# Altium integrated library Xilinx Aerospace and Defense.IntLib: 197 symbols (part 28 of 56)
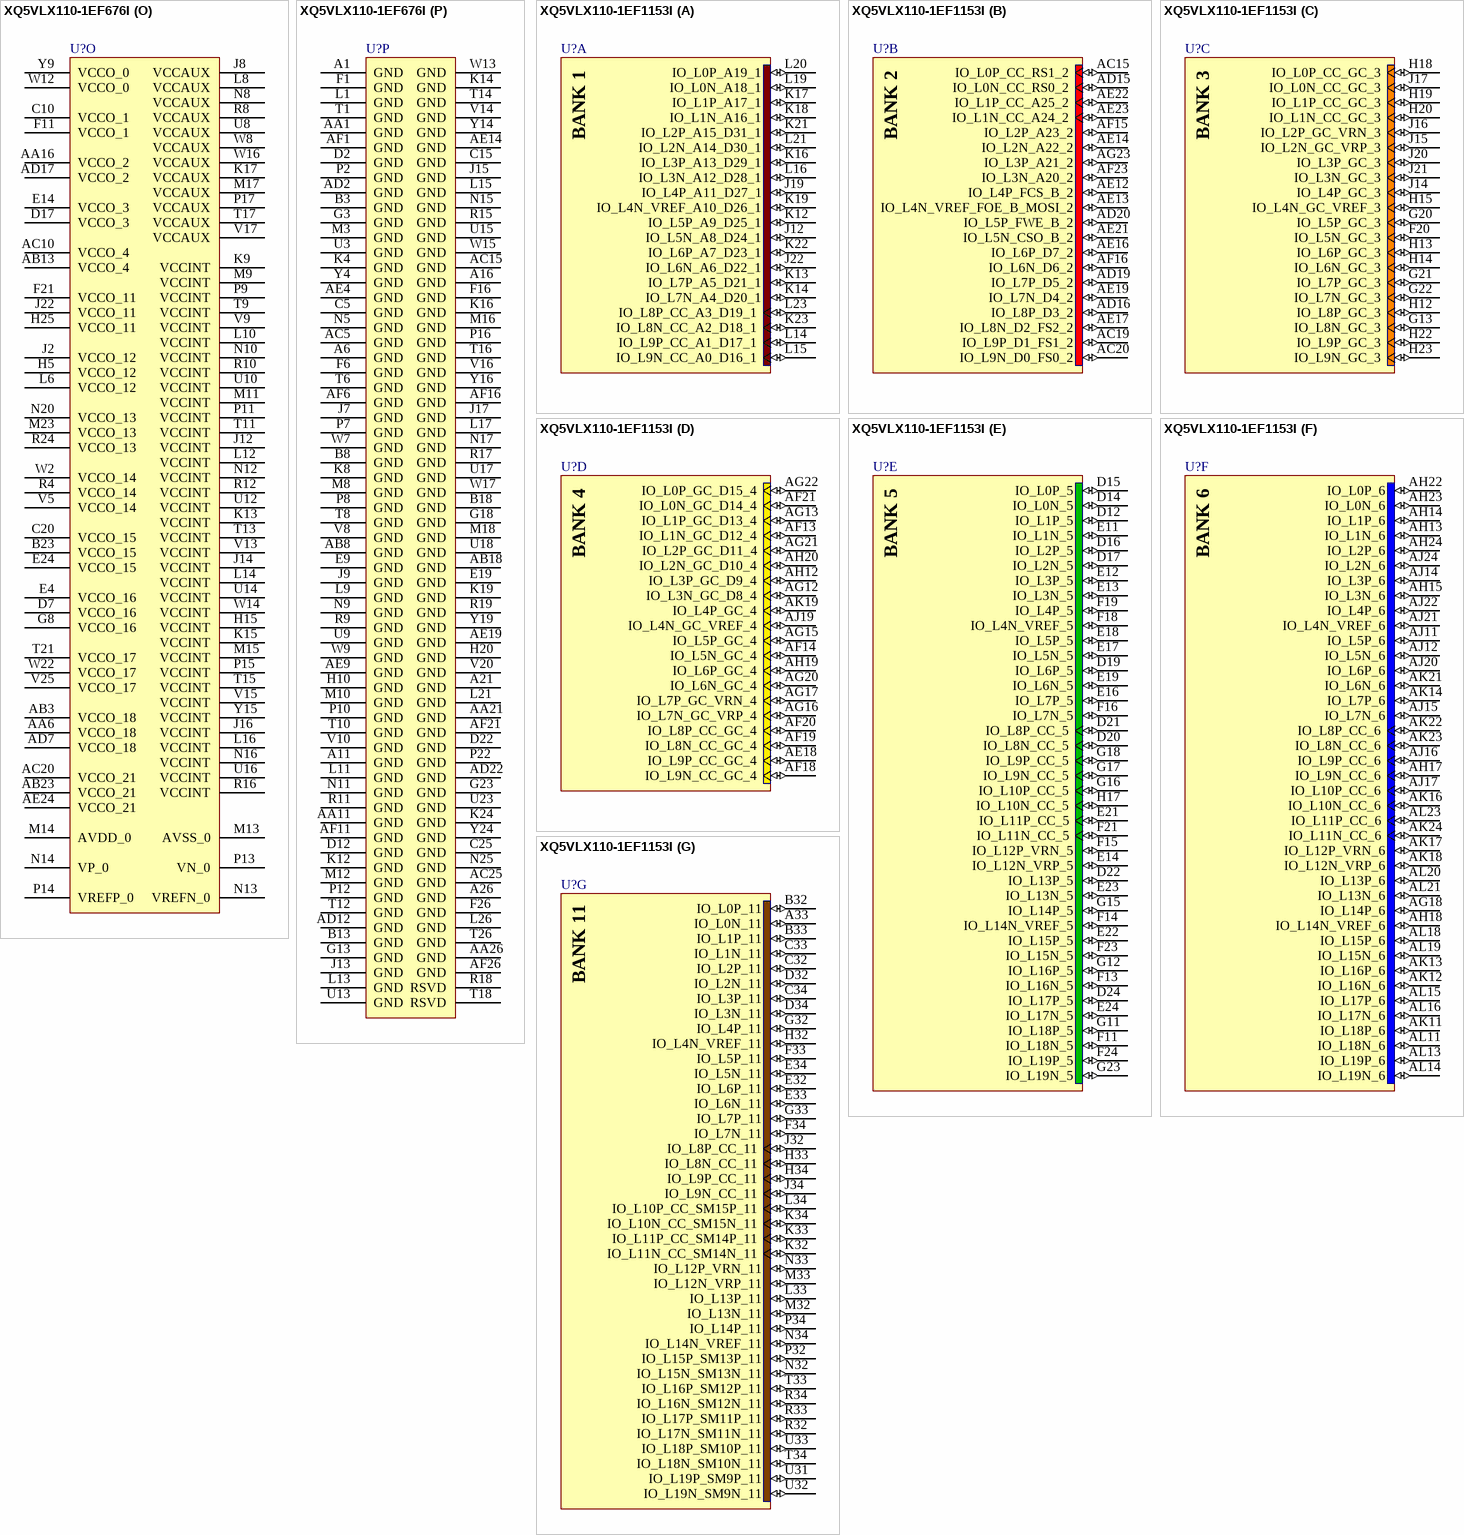
[diagram p339: symbols XQ5VLX110-1EF676I to XQ5VLX110-1EF1153I]

## XQ5VLX110-1EF676I
designator U?
Virtex-5Q LX Platform FPGA, 440 User I/Os, 676-Ball EFBGA, Speed Grade 1, Industrial Grade; Note: Do not connect a single-ended clock to the N-side of clock capable pins (CC & GC pins).; Published: 17-Nov-2009; LatestRevisionDate: 01-Mar-2010; LatestRevisionNote: Updated to datasheet version 1.1 Dec-2009.; DatasheetVersion: ver1.1, Dec-2009; PackageVersion: ver1.0, May-2009; PackageReference: EF676; Publisher: Altium Limited; PackageDescription: 676-Ball Flip Chip Ball Grid Array (EF676); Code_JEDEC: MS-034-AAL-1; Code_IPC: BGA100P26X26-676; ComponentLink1Description: Virtex-5Q Datasheet; ComponentLink1URL: http://www.xilinx.com/support/documentation/data_sheets/ds174.pdf; ComponentLink2Description: Pinout Specification; ComponentLink2URL: http://direct.xilinx.com/bvdocs/userguides/ug195.pdf; ComponentLink3Description: EF676 Package Drawing; ComponentLink3URL: http://www.xilinx.com/support/documentation/package_specs/ef676.pdf; ComponentLink4Description: Virtex-5Q Documents; ComponentLink4URL: http://www.xilinx.com/support/documentation/virtex-5q.htm; ComponentLink5Description: Xilinx.com Home; ComponentLink5URL: http://www.xilinx.com
footprint EF676 (BGA, 676-Leads, Body 27x27mm, Pitch 1mm)
signal-integrity model XQ5VLX110_EF676 (Virtex-5Q)
part A pins: F13 IO_L0N_A18_1 (io), F15 IO_L2P_A15_D31_1 (io), G9 IO_L7N_A4_D20_1 (io), G10 IO_L7P_A5_D21_1 (io), G11 IO_L5N_A8_D24_1 (io), G12 IO_L3P_A13_D29_1 (io), G14 IO_L0P_A19_1 (io), G15 IO_L2N_A14_D30_1 (io), G16 IO_L4P_A11_D27_1 (io), G17 IO_L6N_A6_D22_1 (io), G19 IO_L8P_CC_A3_D19_1 (io), H8 IO_L9N_CC_A0_D16_1 (io), H9 IO_L9P_CC_A1_D17_1 (io), H11 IO_L5P_A9_D25_1 (io), H12 IO_L3N_A12_D28_1 (io), H13 IO_L1N_A16_1 (io), H14 IO_L1P_A17_1 (io), H16 IO_L4N_VREF_A10_D26_1 (io), H17 IO_L6P_A7_D23_1 (io), H18 IO_L8N_CC_A2_D18_1 (io)
part B pins: AA8 IO_L2N_A22_2 (io), AA9 IO_L4N_VREF_FOE_B_MOSI_2 (io), AA10 IO_L4P_FCS_B_2 (io), AA12 IO_L8P_D3_2 (io), AA13 IO_L9P_D1_FS1_2 (io), AA14 IO_L9N_D0_FS0_2 (io), AA15 IO_L7P_D5_2 (io), AA17 IO_L3P_A21_2 (io), AA18 IO_L1P_CC_A25_2 (io), AB11 IO_L8N_D2_FS2_2 (io), AB14 IO_L7N_D4_2 (io), AB15 IO_L5P_FWE_B_2 (io), AB16 IO_L5N_CSO_B_2 (io), AB17 IO_L3N_A20_2 (io), Y8 IO_L2P_A23_2 (io), Y10 IO_L0P_CC_RS1_2 (io), Y11 IO_L0N_CC_RS0_2 (io), Y12 IO_L6P_D7_2 (io), Y13 IO_L6N_D6_2 (io), Y18 IO_L1N_CC_A24_2 (io)
part C pins: D13 IO_L1P_CC_GC_3 (io), D14 IO_L1N_CC_GC_3 (io), D15 IO_L3P_GC_3 (io), E8 IO_L8N_GC_3 (io), E10 IO_L4P_GC_3 (io), E11 IO_L4N_GC_VREF_3 (io), E12 IO_L2P_GC_VRN_3 (io), E13 IO_L0N_CC_GC_3 (io), E15 IO_L3N_GC_3 (io), E16 IO_L5P_GC_3 (io), E17 IO_L5N_GC_3 (io), E18 IO_L7P_GC_3 (io), F8 IO_L8P_GC_3 (io), F9 IO_L6P_GC_3 (io), F10 IO_L6N_GC_3 (io), F12 IO_L2N_GC_VRP_3 (io), F14 IO_L0P_CC_GC_3 (io), F17 IO_L9N_GC_3 (io), F18 IO_L9P_GC_3 (io), F19 IO_L7N_GC_3 (io)
part D pins: AB9 IO_L1N_GC_D12_4 (io), AB10 IO_L1P_GC_D13_4 (io), AB12 IO_L7P_GC_VRN_4 (io), AC7 IO_L5N_GC_4 (io), AC8 IO_L3P_GC_D9_4 (io), AC9 IO_L3N_GC_D8_4 (io), AC11 IO_L7N_GC_VRP_4 (io), AC12 IO_L8N_CC_GC_4 (io), AC13 IO_L8P_CC_GC_4 (io), AC14 IO_L6N_GC_4 (io), AC16 IO_L2N_GC_D10_4 (io), AC17 IO_L2P_GC_D11_4 (io), AC18 IO_L0N_GC_D14_4 (io), AD8 IO_L5P_GC_4 (io), AD10 IO_L9N_CC_GC_4 (io), AD11 IO_L9P_CC_GC_4 (io), AD13 IO_L6P_GC_4 (io), AD14 IO_L4N_GC_VREF_4 (io), AD15 IO_L4P_GC_4 (io), AD18 IO_L0P_GC_D15_4 (io)
part E pins: E20 IO_L1N_11 (io), E21 IO_L1P_11 (io), E22 IO_L2P_11 (io), E23 IO_L2N_11 (io), F20 IO_L0N_11 (io), F22 IO_L3P_11 (io), F23 IO_L3N_11 (io), G20 IO_L0P_11 (io), G21 IO_L4P_11 (io), G22 IO_L4N_VREF_11 (io), H19 IO_L6N_11 (io), H21 IO_L5P_11 (io), H22 IO_L5N_11 (io), H23 IO_L7P_11 (io), J19 IO_L6P_11 (io), J20 IO_L8N_CC_11 (io), J21 IO_L8P_CC_11 (io), J23 IO_L7N_11 (io), K20 IO_L9N_CC_11 (io), K21 IO_L9P_CC_11 (io), K22 IO_L10N_CC_SM15N_11 (io), K23 IO_L10P_CC_SM15P_11 (io), L19 IO_L11N_CC_SM14N_11 (io), L20 IO_L11P_CC_SM14P_11 (io), L22 IO_L12N_VRP_11 (io), L23 IO_L12P_VRN_11 (io), M19 IO_L15N_SM13N_11 (io), M20 IO_L15P_SM13P_11 (io), M21 IO_L13N_11 (io), M22 IO_L13P_11 (io), N19 IO_L14N_VREF_11 (io), N21 IO_L17N_SM11N_11 (io), N22 IO_L17P_SM11P_11 (io), N23 IO_L16N_SM12N_11 (io), P19 IO_L14P_11 (io), P20 IO_L19N_SM9N_11 (io), P21 IO_L19P_SM9P_11 (io), P23 IO_L16P_SM12P_11 (io), R22 IO_L18P_SM10P_11 (io), R23 IO_L18N_SM10N_11 (io)
part F pins: E5 IO_L1N_12 (io), E6 IO_L1P_12 (io), E7 IO_L0P_12 (io), F4 IO_L3N_12 (io), F5 IO_L3P_12 (io), F7 IO_L0N_12 (io), G4 IO_L6N_12 (io), G5 IO_L5N_12 (io), G6 IO_L2P_12 (io), G7 IO_L2N_12 (io), H4 IO_L6P_12 (io), H6 IO_L5P_12 (io), H7 IO_L4N_VREF_12 (io), J4 IO_L7N_12 (io), J5 IO_L7P_12 (io), J6 IO_L4P_12 (io), K5 IO_L10P_CC_12 (io), K6 IO_L8P_CC_12 (io), K7 IO_L8N_CC_12 (io), L3 IO_L11N_CC_12 (io), L4 IO_L11P_CC_12 (io), L5 IO_L10N_CC_12 (io), L7 IO_L9P_CC_12 (io), M4 IO_L15P_12 (io), M5 IO_L12P_VRN_12 (io), M6 IO_L12N_VRP_12 (io), M7 IO_L9N_CC_12 (io), N3 IO_L14N_VREF_12 (io), N4 IO_L15N_12 (io), N6 IO_L13N_12 (io), N7 IO_L13P_12 (io), P3 IO_L14P_12 (io), P4 IO_L16N_12 (io), P5 IO_L16P_12 (io), P6 IO_L19P_12 (io), R3 IO_L17P_12 (io), R5 IO_L18N_12 (io), R6 IO_L18P_12 (io), R7 IO_L19N_12 (io), T3 IO_L17N_12 (io)
part G pins: AA25 IO_L18N_13 (io), AB25 IO_L18P_13 (io), AB26 IO_L19N_13 (io), AC26 IO_L19P_13 (io), E25 IO_L1P_SM7P_13 (io), E26 IO_L1N_SM7N_13 (io), F24 IO_L0P_SM8P_13 (io), F25 IO_L0N_SM8N_13 (io), G24 IO_L3P_SM5P_13 (io), G25 IO_L3N_SM5N_13 (io), G26 IO_L2P_SM6P_13 (io), H24 IO_L5P_SM4P_13 (io), H26 IO_L2N_SM6N_13 (io), J24 IO_L5N_SM4N_13 (io), J25 IO_L4P_13 (io), J26 IO_L4N_VREF_13 (io), K25 IO_L7P_SM2P_13 (io), K26 IO_L7N_SM2N_13 (io), L24 IO_L6P_SM3P_13 (io), L25 IO_L6N_SM3N_13 (io), M24 IO_L9P_CC_SM0P_13 (io), M25 IO_L8P_CC_SM1P_13 (io), M26 IO_L8N_CC_SM1N_13 (io), N24 IO_L9N_CC_SM0N_13 (io), N26 IO_L10N_CC_13 (io), P24 IO_L11N_CC_13 (io), P25 IO_L11P_CC_13 (io), P26 IO_L10P_CC_13 (io), R25 IO_L12P_VRN_13 (io), R26 IO_L12N_VRP_13 (io), T24 IO_L13P_13 (io), T25 IO_L13N_13 (io), U24 IO_L15P_13 (io), U25 IO_L15N_13 (io), U26 IO_L14N_VREF_13 (io), V26 IO_L14P_13 (io), W25 IO_L16P_13 (io), W26 IO_L16N_13 (io), Y25 IO_L17P_13 (io), Y26 IO_L17N_13 (io)
part H pins: AA2 IO_L15P_14 (io), AB1 IO_L16N_14 (io), AB2 IO_L16P_14 (io), AC1 IO_L17N_14 (io), AC2 IO_L17P_14 (io), AD1 IO_L18N_14 (io), AE1 IO_L18P_14 (io), AE2 IO_L19N_14 (io), AF2 IO_L19P_14 (io), E1 IO_L0N_14 (io), E2 IO_L0P_14 (io), E3 IO_L1N_14 (io), F2 IO_L3P_14 (io), F3 IO_L1P_14 (io), G1 IO_L2P_14 (io), G2 IO_L3N_14 (io), H1 IO_L2N_14 (io), H2 IO_L7N_14 (io), H3 IO_L5P_14 (io), J1 IO_L7P_14 (io), J3 IO_L5N_14 (io), K1 IO_L6N_14 (io), K2 IO_L4N_VREF_14 (io), K3 IO_L4P_14 (io), L2 IO_L6P_14 (io), M1 IO_L8P_CC_14 (io), M2 IO_L9P_CC_14 (io), N1 IO_L8N_CC_14 (io), N2 IO_L9N_CC_14 (io), P1 IO_L10P_CC_14 (io), R1 IO_L10N_CC_14 (io), R2 IO_L11N_CC_14 (io), T2 IO_L11P_CC_14 (io), U1 IO_L12N_VRP_14 (io), U2 IO_L12P_VRN_14 (io), V1 IO_L13N_14 (io), V2 IO_L13P_14 (io), W1 IO_L14N_VREF_14 (io), Y1 IO_L14P_14 (io), Y2 IO_L15N_14 (io)
part I pins: A14 IO_L1P_15 (io), A15 IO_L1N_15 (io), A17 IO_L5N_15 (io), A18 IO_L6P_15 (io), A19 IO_L6N_15 (io), A20 IO_L8P_CC_15 (io), A22 IO_L13N_15 (io), A23 IO_L14P_15 (io), A24 IO_L14N_VREF_15 (io), A25 IO_L17N_15 (io), B14 IO_L0N_15 (io), B15 IO_L2P_15 (io), B16 IO_L2N_15 (io), B17 IO_L5P_15 (io), B19 IO_L7P_15 (io), B20 IO_L8N_CC_15 (io), B21 IO_L11N_CC_15 (io), B22 IO_L13P_15 (io), B24 IO_L15P_15 (io), B25 IO_L17P_15 (io), B26 IO_L18P_15 (io), C14 IO_L0P_15 (io), C16 IO_L3N_15 (io), C17 IO_L4N_VREF_15 (io), C18 IO_L7N_15 (io), C19 IO_L9P_CC_15 (io), C21 IO_L11P_CC_15 (io), C22 IO_L12N_VRP_15 (io), C23 IO_L15N_15 (io), C24 IO_L16N_15 (io), C26 IO_L18N_15 (io), D16 IO_L3P_15 (io), D18 IO_L4P_15 (io), D19 IO_L9N_CC_15 (io), D20 IO_L10N_CC_15 (io), D21 IO_L10P_CC_15 (io), D23 IO_L12P_VRN_15 (io), D24 IO_L16P_15 (io), D25 IO_L19N_15 (io), D26 IO_L19P_15 (io)
part J pins: A2 IO_L17P_16 (io), A3 IO_L17N_16 (io), A4 IO_L12P_VRN_16 (io), A5 IO_L12N_VRP_16 (io), A7 IO_L9N_CC_16 (io), A8 IO_L7N_16 (io), A9 IO_L7P_16 (io), A10 IO_L6N_16 (io), A12 IO_L3N_16 (io), A13 IO_L3P_16 (io), B1 IO_L19P_16 (io), B2 IO_L19N_16 (io), B4 IO_L15N_16 (io), B5 IO_L13P_16 (io), B6 IO_L13N_16 (io), B7 IO_L9P_CC_16 (io), B9 IO_L5P_16 (io), B10 IO_L5N_16 (io), B11 IO_L6P_16 (io), B12 IO_L2N_16 (io), C1 IO_L18N_16 (io), C2 IO_L16P_16 (io), C3 IO_L16N_16 (io), C4 IO_L15P_16 (io), C6 IO_L11P_CC_16 (io), C7 IO_L11N_CC_16 (io), C8 IO_L8N_CC_16 (io), C9 IO_L4P_16 (io), C11 IO_L1P_16 (io), C12 IO_L1N_16 (io), C13 IO_L2P_16 (io), D1 IO_L18P_16 (io), D3 IO_L14P_16 (io), D4 IO_L14N_VREF_16 (io), D5 IO_L10P_CC_16 (io), D6 IO_L10N_CC_16 (io), D8 IO_L8P_CC_16 (io), D9 IO_L4N_VREF_16 (io), D10 IO_L0N_16 (io), D11 IO_L0P_16 (io)
part K pins: AA19 IO_L19N_17 (io), AA20 IO_L19P_17 (io), AA22 IO_L10N_CC_17 (io), AA23 IO_L6P_17 (io), AA24 IO_L6N_17 (io), AB19 IO_L18N_17 (io), AB20 IO_L18P_17 (io), AB21 IO_L11N_CC_17 (io), AB22 IO_L10P_CC_17 (io), AB24 IO_L9P_CC_17 (io), AC19 IO_L17N_17 (io), AC21 IO_L11P_CC_17 (io), AC22 IO_L8N_CC_17 (io), AC23 IO_L8P_CC_17 (io), AC24 IO_L9N_CC_17 (io), AD19 IO_L17P_17 (io), R20 IO_L1N_17 (io), R21 IO_L1P_17 (io), T19 IO_L2N_17 (io), T20 IO_L2P_17 (io), T22 IO_L0N_17 (io), T23 IO_L0P_17 (io), U19 IO_L14P_17 (io), U20 IO_L14N_VREF_17 (io), U21 IO_L3N_17 (io), U22 IO_L3P_17 (io), V19 IO_L15P_17 (io), V21 IO_L12P_VRN_17 (io), V22 IO_L12N_VRP_17 (io), V23 IO_L5N_17 (io), V24 IO_L5P_17 (io), W19 IO_L15N_17 (io), W20 IO_L13N_17 (io), W21 IO_L13P_17 (io), W23 IO_L4N_VREF_17 (io), W24 IO_L4P_17 (io), Y20 IO_L16N_17 (io), Y21 IO_L16P_17 (io), Y22 IO_L7N_17 (io), Y23 IO_L7P_17 (io)
part L pins: AA3 IO_L11N_CC_18 (io), AA4 IO_L9P_CC_18 (io), AA5 IO_L9N_CC_18 (io), AA7 IO_L10N_CC_18 (io), AB4 IO_L11P_CC_18 (io), AB5 IO_L14N_VREF_18 (io), AB6 IO_L14P_18 (io), AB7 IO_L15N_18 (io), AC3 IO_L12N_VRP_18 (io), AC4 IO_L12P_VRN_18 (io), AC6 IO_L15P_18 (io), AD3 IO_L13N_18 (io), AD4 IO_L13P_18 (io), AD5 IO_L17N_18 (io), AD6 IO_L17P_18 (io), AE3 IO_L16N_18 (io), AE5 IO_L19N_18 (io), AE6 IO_L19P_18 (io), AF3 IO_L16P_18 (io), AF4 IO_L18N_18 (io), AF5 IO_L18P_18 (io), T4 IO_L1N_18 (io), T5 IO_L1P_18 (io), T7 IO_L2P_18 (io), U4 IO_L0N_18 (io), U5 IO_L3P_18 (io), U6 IO_L3N_18 (io), U7 IO_L2N_18 (io), V3 IO_L0P_18 (io), V4 IO_L4P_18 (io), V6 IO_L6P_18 (io), V7 IO_L6N_18 (io), W3 IO_L5P_18 (io), W4 IO_L4N_VREF_18 (io), W5 IO_L7P_18 (io), W6 IO_L7N_18 (io), Y3 IO_L5N_18 (io), Y5 IO_L8N_CC_18 (io), Y6 IO_L8P_CC_18 (io), Y7 IO_L10P_CC_18 (io)
part M pins: AD9 IO_L19N_21 (io), AD16 IO_L11N_CC_21 (io), AD20 IO_L5P_21 (io), AD21 IO_L5N_21 (io), AD23 IO_L0N_21 (io), AD24 IO_L0P_21 (io), AD25 IO_L3N_21 (io), AD26 IO_L1N_21 (io), AE7 IO_L18N_21 (io), AE8 IO_L19P_21 (io), AE10 IO_L16N_21 (io), AE11 IO_L15N_21 (io), AE12 IO_L15P_21 (io), AE13 IO_L14N_VREF_21 (io), AE15 IO_L12N_VRP_21 (io), AE16 IO_L11P_CC_21 (io), AE17 IO_L10N_CC_21 (io), AE18 IO_L8N_CC_21 (io), AE20 IO_L6P_21 (io), AE21 IO_L6N_21 (io), AE22 IO_L7N_21 (io), AE23 IO_L4N_VREF_21 (io), AE25 IO_L3P_21 (io), AE26 IO_L1P_21 (io), AF7 IO_L18P_21 (io), AF8 IO_L17N_21 (io), AF9 IO_L17P_21 (io), AF10 IO_L16P_21 (io), AF12 IO_L14P_21 (io), AF13 IO_L13N_21 (io), AF14 IO_L13P_21 (io), AF15 IO_L12P_VRN_21 (io), AF17 IO_L10P_CC_21 (io), AF18 IO_L8P_CC_21 (io), AF19 IO_L9P_CC_21 (io), AF20 IO_L9N_CC_21 (io), AF22 IO_L7P_21 (io), AF23 IO_L4P_21 (io), AF24 IO_L2P_21 (io), AF25 IO_L2N_21 (io)
part N pins: J10 CCLK_0 (io), J11 INIT_B_0 (io), J18 PROGRAM_B_0 (in), K10 DONE_0 (io), K11 D_IN_0 (in), K18 VBATT_0 (power), L18 HSWAPEN_0 (in), N18 CS_B_0 (in), P18 RDWR_B_0 (in), R13 DXN_0, R14 DXP_0, U11 TCK_0 (in), V11 TDI_0 (in), V12 TMS_0 (in), V18 M2_0 (in), W10 TDO_0 (out), W11 D_OUT_BUSY_0 (out), W18 M0_0 (in), Y17 M1_0 (in)
part O pins: AA6 VCCO_18 (power), AA16 VCCO_2 (power), AB3 VCCO_18 (power), AB13 VCCO_4 (power), AB23 VCCO_21 (power), AC10 VCCO_4 (power), AC20 VCCO_21 (power), AD7 VCCO_18 (power), AD17 VCCO_2 (power), AE24 VCCO_21 (power), B23 VCCO_15 (power), C10 VCCO_1 (power), C20 VCCO_15 (power), D7 VCCO_16 (power), D17 VCCO_3 (power), E4 VCCO_16 (power), E14 VCCO_3 (power), E24 VCCO_15 (power), F11 VCCO_1 (power), F21 VCCO_11 (power), G8 VCCO_16 (power), H5 VCCO_12 (power), H15 VCCINT (power), H25 VCCO_11 (power), J2 VCCO_12 (power), J8 VCCAUX (power), J12 VCCINT (power), J14 VCCINT (power), J16 VCCINT (power), J22 VCCO_11 (power), K9 VCCINT (power), K13 VCCINT (power), K15 VCCINT (power), K17 VCCAUX (power), L6 VCCO_12 (power), L8 VCCAUX (power), L10 VCCINT (power), L12 VCCINT (power), L14 VCCINT (power), L16 VCCINT (power), M9 VCCINT (power), M11 VCCINT (power), M13 AVSS_0 (power), M14 AVDD_0 (power), M15 VCCINT (power), M17 VCCAUX (power), M23 VCCO_13 (power), N8 VCCAUX (power), N10 VCCINT (power), N12 VCCINT (power), N13 VREFN_0 (power), N14 VP_0 (power), N16 VCCINT (power), N20 VCCO_13 (power), P9 VCCINT (power), P11 VCCINT (power), P13 VN_0 (power), P14 VREFP_0 (power), P15 VCCINT (power), P17 VCCAUX (power), R4 VCCO_14 (power), R8 VCCAUX (power), R10 VCCINT (power), R12 VCCINT (power), R16 VCCINT (power), R24 VCCO_13 (power), T9 VCCINT (power), T11 VCCINT (power), T13 VCCINT (power), T15 VCCINT (power), T17 VCCAUX (power), T21 VCCO_17 (power), U8 VCCAUX (power), U10 VCCINT (power), U12 VCCINT (power), U14 VCCINT (power), U16 VCCINT (power), V5 VCCO_14 (power), V9 VCCINT (power), V13 VCCINT (power), V15 VCCINT (power), V17 VCCAUX (power), V25 VCCO_17 (power), W2 VCCO_14 (power), W8 VCCAUX (power), W12 VCCO_0 (power), W14 VCCINT (power), W16 VCCAUX (power), W22 VCCO_17 (power), Y9 VCCO_0 (power), Y15 VCCINT (power)
part P pins: A1 GND (power), A6 GND (power), A11 GND (power), A16 GND (power), A21 GND (power), A26 GND (power), AA1 GND (power), AA11 GND (power), AA21 GND (power), AA26 GND (power), AB8 GND (power), AB18 GND (power), AC5 GND (power), AC15 GND (power), AC25 GND (power), AD2 GND (power), AD12 GND (power), AD22 GND (power), AE4 GND (power), AE9 GND (power), AE14 GND (power), AE19 GND (power), AF1 GND (power), AF6 GND (power), AF11 GND (power), AF16 GND (power), AF21 GND (power), AF26 GND (power), B3 GND (power), B8 GND (power), B13 GND (power), B18 GND (power), C5 GND (power), C15 GND (power), C25 GND (power), D2 GND (power), D12 GND (power), D22 GND (power), E9 GND (power), E19 GND (power), F1 GND (power), F6 GND (power), F16 GND (power), F26 GND (power), G3 GND (power), G13 GND (power), G18 GND (power), G23 GND (power), H10 GND (power), H20 GND (power), J7 GND (power), J9 GND (power), J13 GND (power), J15 GND (power), J17 GND (power), K4 GND (power), K8 GND (power), K12 GND (power), K14 GND (power), K16 GND (power), K19 GND (power), K24 GND (power), L1 GND (power), L9 GND (power), L11 GND (power), L13 GND (power), L15 GND (power), L17 GND (power), L21 GND (power), L26 GND (power), M3 GND (power), M8 GND (power), M10 GND (power), M12 GND (power), M16 GND (power), M18 GND (power), N5 GND (power), N9 GND (power), N11 GND (power), N15 GND (power), N17 GND (power), N25 GND (power), P2 GND (power), P7 GND (power), P8 GND (power), P10 GND (power), P12 GND (power), P16 GND (power), P22 GND (power), R9 GND (power), R11 GND (power), R15 GND (power), R17 GND (power), R18 RSVD, R19 GND (power), T1 GND (power), T6 GND (power), T8 GND (power), T10 GND (power), T12 GND (power), T14 GND (power), T16 GND (power), T18 RSVD, T26 GND (power), U3 GND (power), U9 GND (power), U13 GND (power), U15 GND (power), U17 GND (power), U18 GND (power), U23 GND (power), V8 GND (power), V10 GND (power), V14 GND (power), V16 GND (power), V20 GND (power), W7 GND (power), W9 GND (power), W13 GND (power), W15 GND (power), W17 GND (power), Y4 GND (power), Y14 GND (power), Y16 GND (power), Y19 GND (power), Y24 GND (power)
part A text: BANK 1
part B text: BANK 2
part C text: BANK 3
part D text: BANK 4
part E text: BANK 11
part F text: BANK 12
part G text: BANK 13
part H text: BANK 14
part I text: BANK 15
part J text: BANK 16
part K text: BANK 17
part L text: BANK 18
part M text: BANK 21

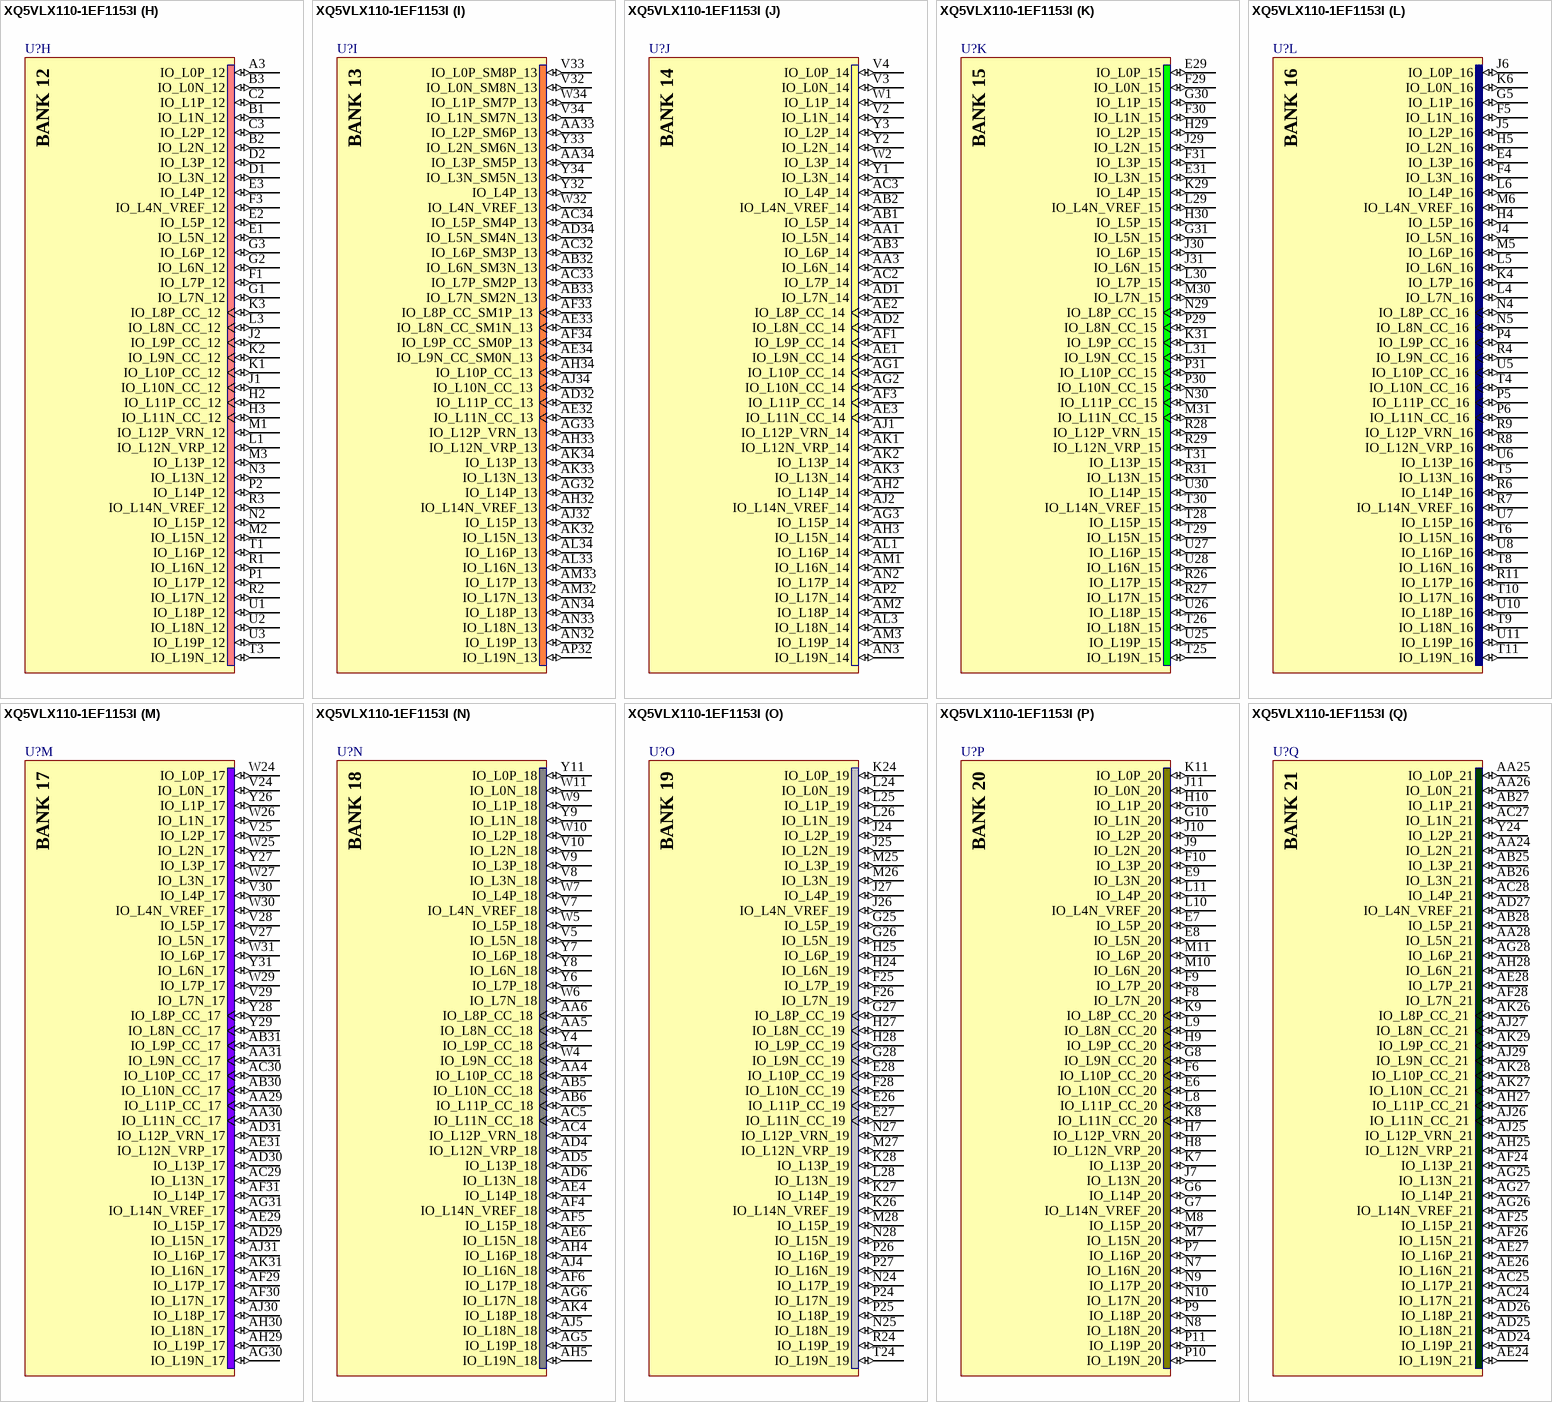
[diagram p106: symbol XQ5VLX110-1EF1153I]

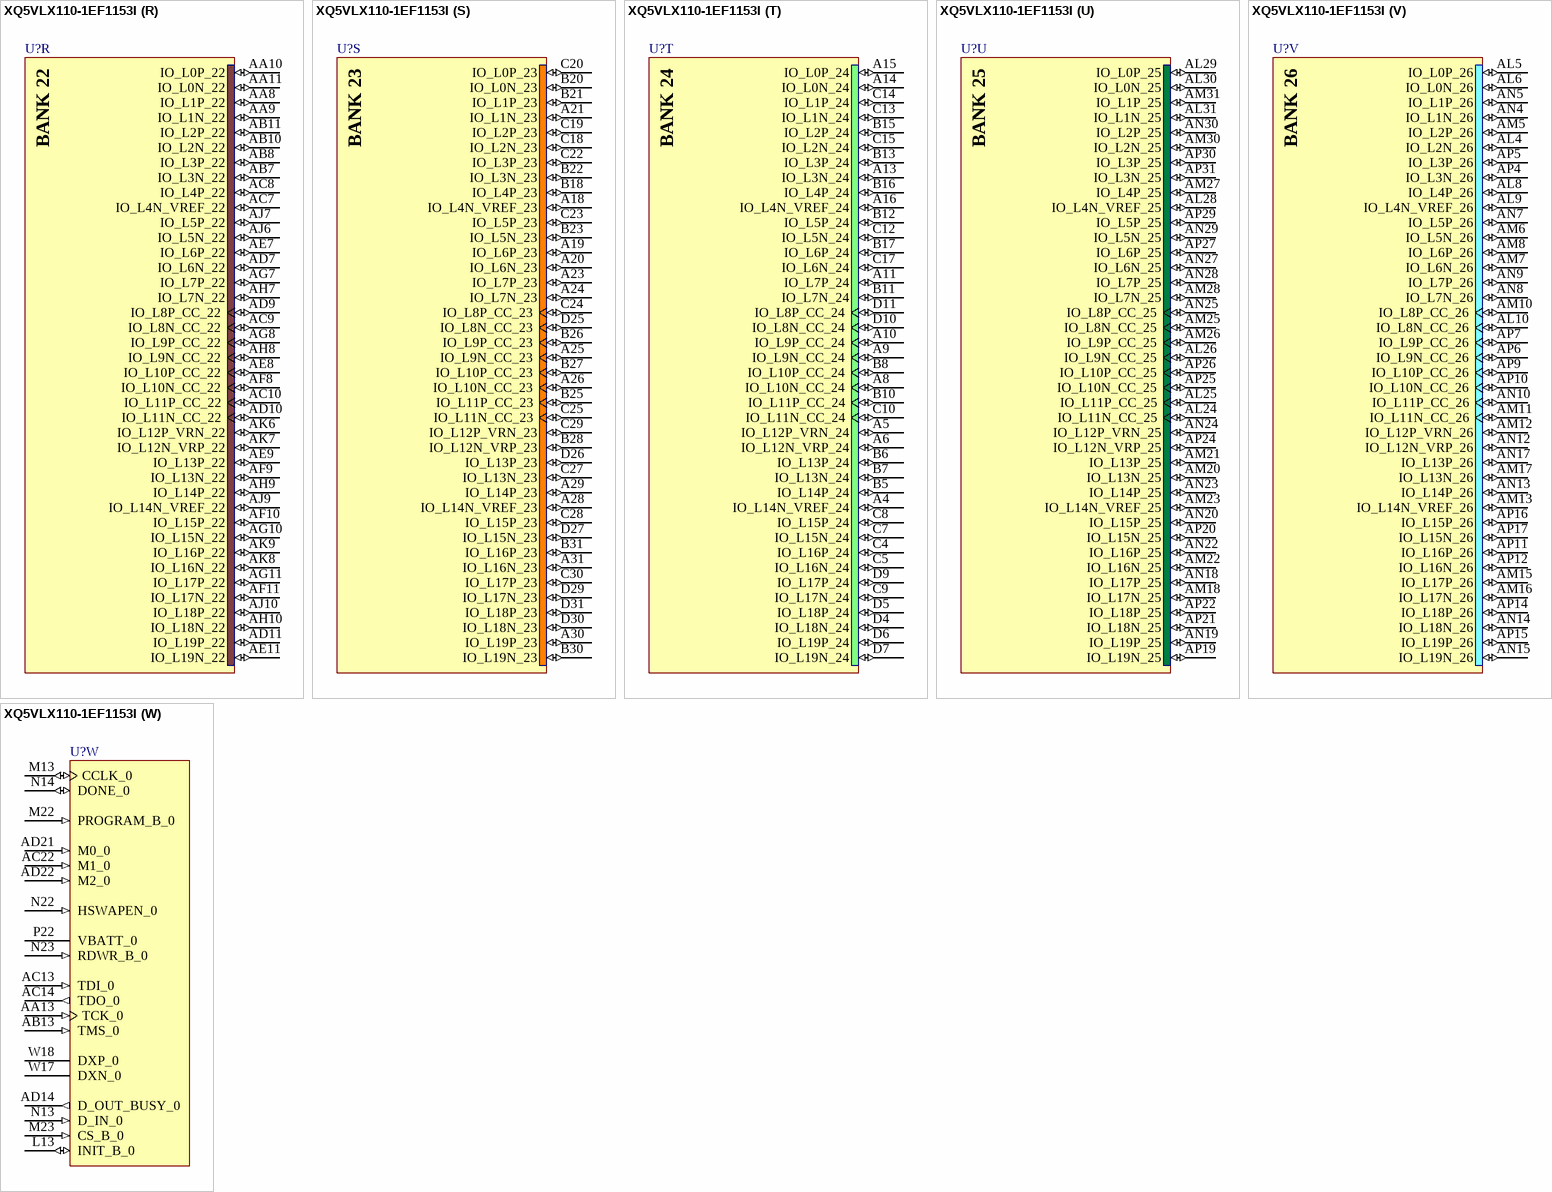
[diagram p107: symbol XQ5VLX110-1EF1153I]

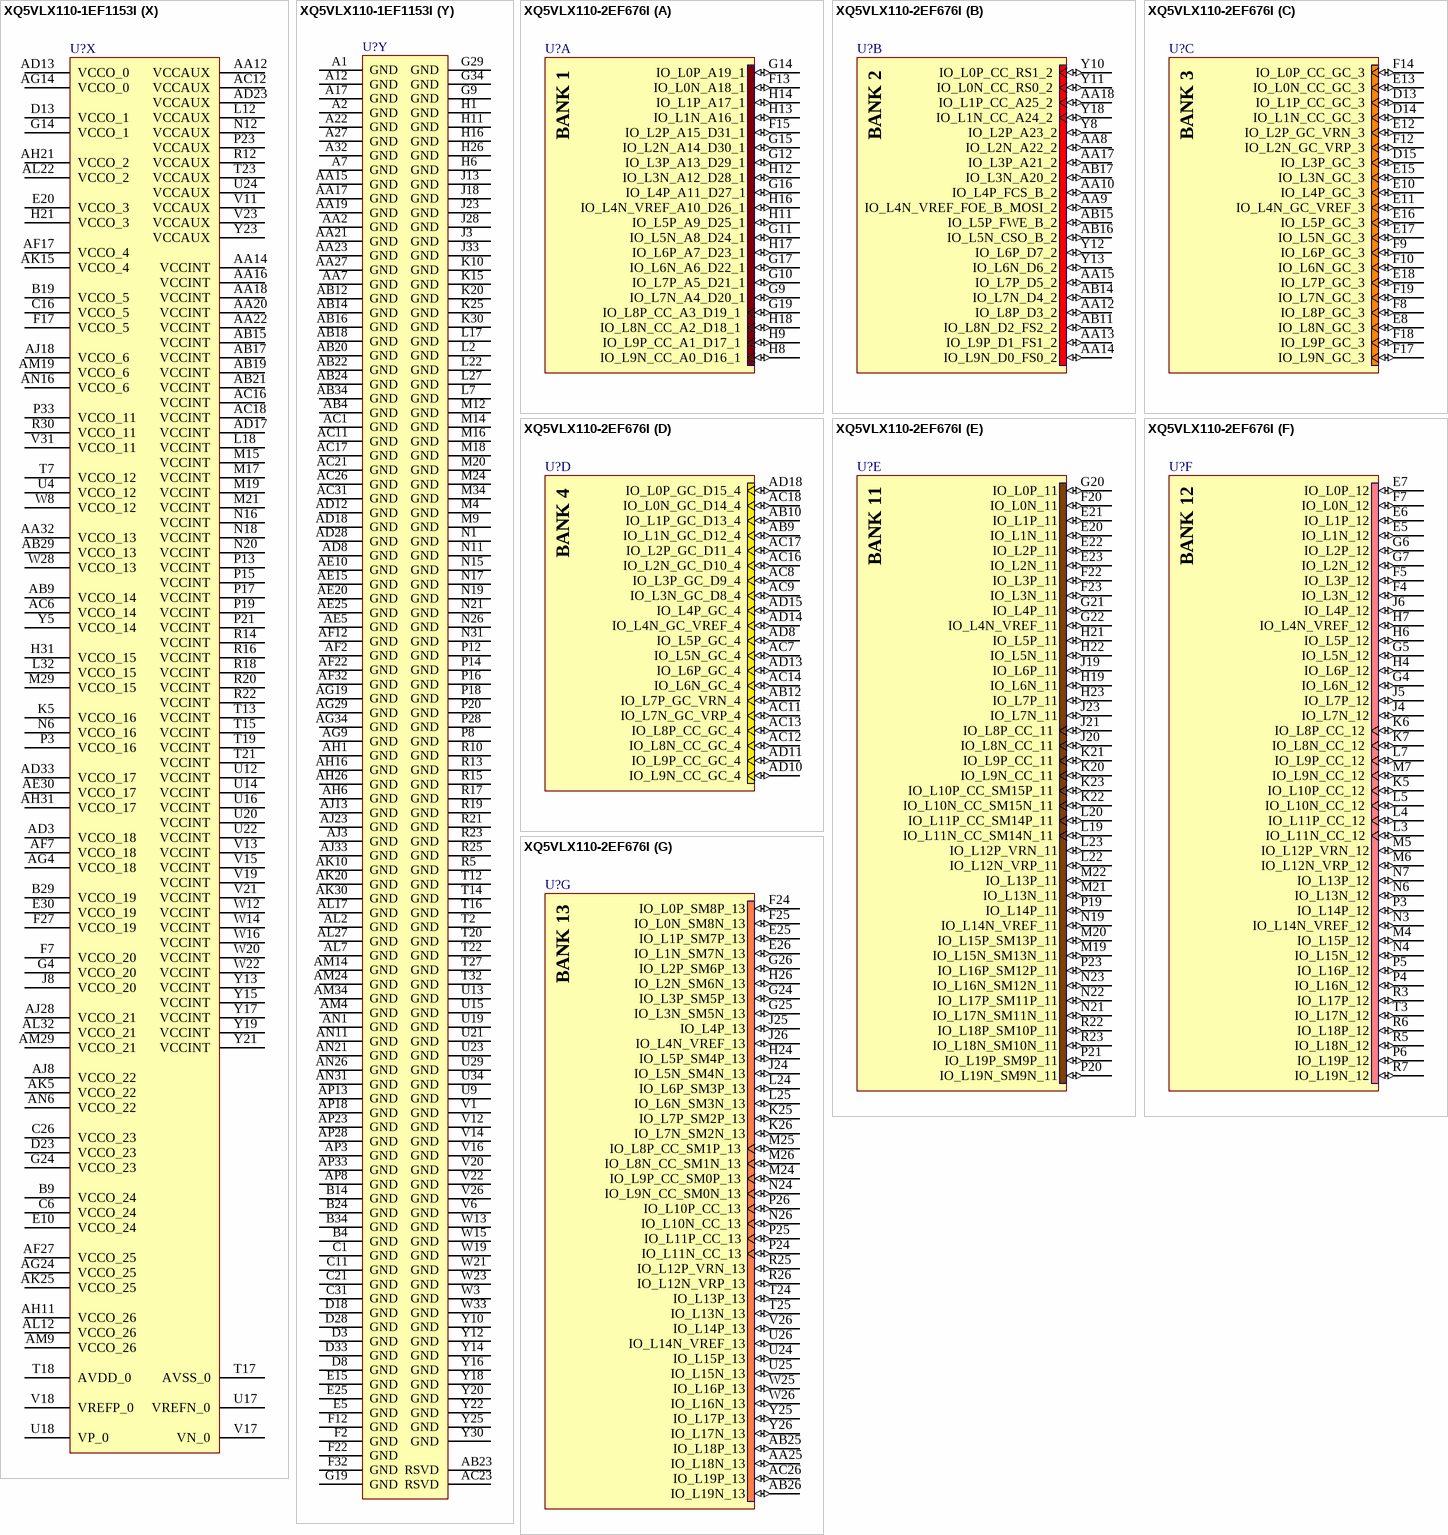
[diagram p108: symbols XQ5VLX110-1EF1153I to XQ5VLX110-2EF676I]

## XQ5VLX110-1EF1153I
designator U?
Virtex-5Q LX Platform FPGA, 800 User I/Os, 1153-Ball EFBGA, Speed Grade 1, Industrial Grade; Note: Do not connect a single-ended clock to the N-side of clock capable pins (CC & GC pins).; Published: 17-Nov-2009; LatestRevisionDate: 01-Mar-2010; LatestRevisionNote: Updated to datasheet version 1.1 Dec-2009.; DatasheetVersion: ver1.1, Dec-2009; PackageVersion: ver1.0, May-2009; PackageReference: EF1153; Publisher: Altium Limited; PackageDescription: 1153-Ball Flip Chip Ball Grid Array (EF1153); Code_JEDEC: MS-034-AAR-1 (Depopulated); ComponentLink1Description: Virtex-5Q Datasheet; ComponentLink1URL: http://www.xilinx.com/support/documentation/data_sheets/ds174.pdf; ComponentLink2Description: Pinout Specification; ComponentLink2URL: http://direct.xilinx.com/bvdocs/userguides/ug195.pdf; ComponentLink3Description: EF1153 Package Drawing; ComponentLink3URL: http://www.xilinx.com/support/documentation/package_specs/ef1153.pdf; ComponentLink4Description: Virtex-5Q Documents; ComponentLink4URL: http://www.xilinx.com/support/documentation/virtex-5q.htm; ComponentLink5Description: Xilinx.com Home; ComponentLink5URL: http://www.xilinx.com
footprint EF1153 (BGA, 1153-Leads, Body 35x35mm, Pitch 1mm)
signal-integrity model XQ5VLX110_EF1153 (Virtex-5Q)
part A pins: J12 IO_L5N_A8_D24_1 (io), J19 IO_L4P_A11_D27_1 (io), J22 IO_L6N_A6_D22_1 (io), K12 IO_L5P_A9_D25_1 (io), K13 IO_L7P_A5_D21_1 (io), K14 IO_L7N_A4_D20_1 (io), K16 IO_L3P_A13_D29_1 (io), K17 IO_L1P_A17_1 (io), K18 IO_L1N_A16_1 (io), K19 IO_L4N_VREF_A10_D26_1 (io), K21 IO_L2P_A15_D31_1 (io), K22 IO_L6P_A7_D23_1 (io), K23 IO_L8N_CC_A2_D18_1 (io), L14 IO_L9P_CC_A1_D17_1 (io), L15 IO_L9N_CC_A0_D16_1 (io), L16 IO_L3N_A12_D28_1 (io), L19 IO_L0N_A18_1 (io), L20 IO_L0P_A19_1 (io), L21 IO_L2N_A14_D30_1 (io), L23 IO_L8P_CC_A3_D19_1 (io)
part B pins: AC15 IO_L0P_CC_RS1_2 (io), AC19 IO_L9P_D1_FS1_2 (io), AC20 IO_L9N_D0_FS0_2 (io), AD15 IO_L0N_CC_RS0_2 (io), AD16 IO_L8P_D3_2 (io), AD19 IO_L7P_D5_2 (io), AD20 IO_L5P_FWE_B_2 (io), AE12 IO_L4P_FCS_B_2 (io), AE13 IO_L4N_VREF_FOE_B_MOSI_2 (io), AE14 IO_L2N_A22_2 (io), AE16 IO_L6P_D7_2 (io), AE17 IO_L8N_D2_FS2_2 (io), AE19 IO_L7N_D4_2 (io), AE21 IO_L5N_CSO_B_2 (io), AE22 IO_L1P_CC_A25_2 (io), AE23 IO_L1N_CC_A24_2 (io), AF15 IO_L2P_A23_2 (io), AF16 IO_L6N_D6_2 (io), AF23 IO_L3N_A20_2 (io), AG23 IO_L3P_A21_2 (io)
part C pins: F20 IO_L5N_GC_3 (io), G13 IO_L8N_GC_3 (io), G20 IO_L5P_GC_3 (io), G21 IO_L7P_GC_3 (io), G22 IO_L7N_GC_3 (io), H12 IO_L8P_GC_3 (io), H13 IO_L6P_GC_3 (io), H14 IO_L6N_GC_3 (io), H15 IO_L4N_GC_VREF_3 (io), H18 IO_L0P_CC_GC_3 (io), H19 IO_L1P_CC_GC_3 (io), H20 IO_L1N_CC_GC_3 (io), H22 IO_L9P_GC_3 (io), H23 IO_L9N_GC_3 (io), J14 IO_L4P_GC_3 (io), J15 IO_L2N_GC_VRP_3 (io), J16 IO_L2P_GC_VRN_3 (io), J17 IO_L0N_CC_GC_3 (io), J20 IO_L3P_GC_3 (io), J21 IO_L3N_GC_3 (io)
part D pins: AE18 IO_L9P_CC_GC_4 (io), AF13 IO_L1N_GC_D12_4 (io), AF14 IO_L5N_GC_4 (io), AF18 IO_L9N_CC_GC_4 (io), AF19 IO_L8N_CC_GC_4 (io), AF20 IO_L8P_CC_GC_4 (io), AF21 IO_L0N_GC_D14_4 (io), AG12 IO_L3N_GC_D8_4 (io), AG13 IO_L1P_GC_D13_4 (io), AG15 IO_L5P_GC_4 (io), AG16 IO_L7N_GC_VRP_4 (io), AG17 IO_L7P_GC_VRN_4 (io), AG20 IO_L6N_GC_4 (io), AG21 IO_L2P_GC_D11_4 (io), AG22 IO_L0P_GC_D15_4 (io), AH12 IO_L3P_GC_D9_4 (io), AH19 IO_L6P_GC_4 (io), AH20 IO_L2N_GC_D10_4 (io), AJ19 IO_L4N_GC_VREF_4 (io), AK19 IO_L4P_GC_4 (io)
part E pins: D12 IO_L1P_5 (io), D14 IO_L0N_5 (io), D15 IO_L0P_5 (io), D16 IO_L2P_5 (io), D17 IO_L2N_5 (io), D19 IO_L6P_5 (io), D20 IO_L8N_CC_5 (io), D21 IO_L8P_CC_5 (io), D22 IO_L13P_5 (io), D24 IO_L17P_5 (io), E11 IO_L1N_5 (io), E12 IO_L3P_5 (io), E13 IO_L3N_5 (io), E14 IO_L12N_VRP_5 (io), E16 IO_L7P_5 (io), E17 IO_L5N_5 (io), E18 IO_L5P_5 (io), E19 IO_L6N_5 (io), E21 IO_L11P_CC_5 (io), E22 IO_L15P_5 (io), E23 IO_L13N_5 (io), E24 IO_L17N_5 (io), F11 IO_L18N_5 (io), F13 IO_L16N_5 (io), F14 IO_L14N_VREF_5 (io), F15 IO_L12P_VRN_5 (io), F16 IO_L7N_5 (io), F18 IO_L4N_VREF_5 (io), F19 IO_L4P_5 (io), F21 IO_L11N_CC_5 (io), F23 IO_L15N_5 (io), F24 IO_L19P_5 (io), G11 IO_L18P_5 (io), G12 IO_L16P_5 (io), G15 IO_L14P_5 (io), G16 IO_L10P_CC_5 (io), G17 IO_L9N_CC_5 (io), G18 IO_L9P_CC_5 (io), G23 IO_L19N_5 (io), H17 IO_L10N_CC_5 (io)
part F pins: AG18 IO_L14P_6 (io), AH13 IO_L1N_6 (io), AH14 IO_L1P_6 (io), AH15 IO_L3N_6 (io), AH17 IO_L9N_CC_6 (io), AH18 IO_L14N_VREF_6 (io), AH22 IO_L0P_6 (io), AH23 IO_L0N_6 (io), AH24 IO_L2P_6 (io), AJ11 IO_L5P_6 (io), AJ12 IO_L5N_6 (io), AJ14 IO_L3P_6 (io), AJ15 IO_L7N_6 (io), AJ16 IO_L9P_CC_6 (io), AJ17 IO_L10P_CC_6 (io), AJ20 IO_L6P_6 (io), AJ21 IO_L4N_VREF_6 (io), AJ22 IO_L4P_6 (io), AJ24 IO_L2N_6 (io), AK11 IO_L18P_6 (io), AK12 IO_L16N_6 (io), AK13 IO_L16P_6 (io), AK14 IO_L7P_6 (io), AK16 IO_L10N_CC_6 (io), AK17 IO_L12P_VRN_6 (io), AK18 IO_L12N_VRP_6 (io), AK21 IO_L6N_6 (io), AK22 IO_L8P_CC_6 (io), AK23 IO_L8N_CC_6 (io), AK24 IO_L11N_CC_6 (io), AL11 IO_L18N_6 (io), AL13 IO_L19P_6 (io), AL14 IO_L19N_6 (io), AL15 IO_L17P_6 (io), AL16 IO_L17N_6 (io), AL18 IO_L15P_6 (io), AL19 IO_L15N_6 (io), AL20 IO_L13P_6 (io), AL21 IO_L13N_6 (io), AL23 IO_L11P_CC_6 (io)
part G pins: A33 IO_L0N_11 (io), B32 IO_L0P_11 (io), B33 IO_L1P_11 (io), C32 IO_L2P_11 (io), C33 IO_L1N_11 (io), C34 IO_L3P_11 (io), D32 IO_L2N_11 (io), D34 IO_L3N_11 (io), E32 IO_L6P_11 (io), E33 IO_L6N_11 (io), E34 IO_L5N_11 (io), F33 IO_L5P_11 (io), F34 IO_L7N_11 (io), G32 IO_L4P_11 (io), G33 IO_L7P_11 (io), H32 IO_L4N_VREF_11 (io), H33 IO_L8N_CC_11 (io), H34 IO_L9P_CC_11 (io), J32 IO_L8P_CC_11 (io), J34 IO_L9N_CC_11 (io), K32 IO_L11N_CC_SM14N_11 (io), K33 IO_L11P_CC_SM14P_11 (io), K34 IO_L10N_CC_SM15N_11 (io), L33 IO_L13P_11 (io), L34 IO_L10P_CC_SM15P_11 (io), M32 IO_L13N_11 (io), M33 IO_L12N_VRP_11 (io), N32 IO_L15N_SM13N_11 (io), N33 IO_L12P_VRN_11 (io), N34 IO_L14N_VREF_11 (io), P32 IO_L15P_SM13P_11 (io), P34 IO_L14P_11 (io), R32 IO_L17N_SM11N_11 (io), R33 IO_L17P_SM11P_11 (io), R34 IO_L16N_SM12N_11 (io), T33 IO_L16P_SM12P_11 (io), T34 IO_L18N_SM10N_11 (io), U31 IO_L19P_SM9P_11 (io), U32 IO_L19N_SM9N_11 (io), U33 IO_L18P_SM10P_11 (io)
part H pins: A3 IO_L0P_12 (io), B1 IO_L1N_12 (io), B2 IO_L2N_12 (io), B3 IO_L0N_12 (io), C2 IO_L1P_12 (io), C3 IO_L2P_12 (io), D1 IO_L3N_12 (io), D2 IO_L3P_12 (io), E1 IO_L5N_12 (io), E2 IO_L5P_12 (io), E3 IO_L4P_12 (io), F1 IO_L7P_12 (io), F3 IO_L4N_VREF_12 (io), G1 IO_L7N_12 (io), G2 IO_L6N_12 (io), G3 IO_L6P_12 (io), H2 IO_L11P_CC_12 (io), H3 IO_L11N_CC_12 (io), J1 IO_L10N_CC_12 (io), J2 IO_L9P_CC_12 (io), K1 IO_L10P_CC_12 (io), K2 IO_L9N_CC_12 (io), K3 IO_L8P_CC_12 (io), L1 IO_L12N_VRP_12 (io), L3 IO_L8N_CC_12 (io), M1 IO_L12P_VRN_12 (io), M2 IO_L15N_12 (io), M3 IO_L13P_12 (io), N2 IO_L15P_12 (io), N3 IO_L13N_12 (io), P1 IO_L17P_12 (io), P2 IO_L14P_12 (io), R1 IO_L16N_12 (io), R2 IO_L17N_12 (io), R3 IO_L14N_VREF_12 (io), T1 IO_L16P_12 (io), T3 IO_L19N_12 (io), U1 IO_L18P_12 (io), U2 IO_L18N_12 (io), U3 IO_L19P_12 (io)
part I pins: AA33 IO_L2P_SM6P_13 (io), AA34 IO_L3P_SM5P_13 (io), AB32 IO_L6N_SM3N_13 (io), AB33 IO_L7N_SM2N_13 (io), AC32 IO_L6P_SM3P_13 (io), AC33 IO_L7P_SM2P_13 (io), AC34 IO_L5P_SM4P_13 (io), AD32 IO_L11P_CC_13 (io), AD34 IO_L5N_SM4N_13 (io), AE32 IO_L11N_CC_13 (io), AE33 IO_L8N_CC_SM1N_13 (io), AE34 IO_L9N_CC_SM0N_13 (io), AF33 IO_L8P_CC_SM1P_13 (io), AF34 IO_L9P_CC_SM0P_13 (io), AG32 IO_L14P_13 (io), AG33 IO_L12P_VRN_13 (io), AH32 IO_L14N_VREF_13 (io), AH33 IO_L12N_VRP_13 (io), AH34 IO_L10P_CC_13 (io), AJ32 IO_L15P_13 (io), AJ34 IO_L10N_CC_13 (io), AK32 IO_L15N_13 (io), AK33 IO_L13N_13 (io), AK34 IO_L13P_13 (io), AL33 IO_L16N_13 (io), AL34 IO_L16P_13 (io), AM32 IO_L17N_13 (io), AM33 IO_L17P_13 (io), AN32 IO_L19P_13 (io), AN33 IO_L18N_13 (io), AN34 IO_L18P_13 (io), AP32 IO_L19N_13 (io), V32 IO_L0N_SM8N_13 (io), V33 IO_L0P_SM8P_13 (io), V34 IO_L1N_SM7N_13 (io), W32 IO_L4N_VREF_13 (io), W34 IO_L1P_SM7P_13 (io), Y32 IO_L4P_13 (io), Y33 IO_L2N_SM6N_13 (io), Y34 IO_L3N_SM5N_13 (io)
part J pins: AA1 IO_L5N_14 (io), AA3 IO_L6N_14 (io), AB1 IO_L5P_14 (io), AB2 IO_L4N_VREF_14 (io), AB3 IO_L6P_14 (io), AC2 IO_L7P_14 (io), AC3 IO_L4P_14 (io), AD1 IO_L7N_14 (io), AD2 IO_L8N_CC_14 (io), AE1 IO_L9N_CC_14 (io), AE2 IO_L8P_CC_14 (io), AE3 IO_L11N_CC_14 (io), AF1 IO_L9P_CC_14 (io), AF3 IO_L11P_CC_14 (io), AG1 IO_L10P_CC_14 (io), AG2 IO_L10N_CC_14 (io), AG3 IO_L15P_14 (io), AH2 IO_L14P_14 (io), AH3 IO_L15N_14 (io), AJ1 IO_L12P_VRN_14 (io), AJ2 IO_L14N_VREF_14 (io), AK1 IO_L12N_VRP_14 (io), AK2 IO_L13P_14 (io), AK3 IO_L13N_14 (io), AL1 IO_L16P_14 (io), AL3 IO_L18N_14 (io), AM1 IO_L16N_14 (io), AM2 IO_L18P_14 (io), AM3 IO_L19P_14 (io), AN2 IO_L17P_14 (io), AN3 IO_L19N_14 (io), AP2 IO_L17N_14 (io), V2 IO_L1N_14 (io), V3 IO_L0N_14 (io), V4 IO_L0P_14 (io), W1 IO_L1P_14 (io), W2 IO_L3P_14 (io), Y1 IO_L3N_14 (io), Y2 IO_L2N_14 (io), Y3 IO_L2P_14 (io)
part K pins: E29 IO_L0P_15 (io), E31 IO_L3N_15 (io), F29 IO_L0N_15 (io), F30 IO_L1N_15 (io), F31 IO_L3P_15 (io), G30 IO_L1P_15 (io), G31 IO_L5N_15 (io), H29 IO_L2P_15 (io), H30 IO_L5P_15 (io), J29 IO_L2N_15 (io), J30 IO_L6P_15 (io), J31 IO_L6N_15 (io), K29 IO_L4P_15 (io), K31 IO_L9P_CC_15 (io), L29 IO_L4N_VREF_15 (io), L30 IO_L7P_15 (io), L31 IO_L9N_CC_15 (io), M30 IO_L7N_15 (io), M31 IO_L11N_CC_15 (io), N29 IO_L8P_CC_15 (io), N30 IO_L11P_CC_15 (io), P29 IO_L8N_CC_15 (io), P30 IO_L10N_CC_15 (io), P31 IO_L10P_CC_15 (io), R26 IO_L17P_15 (io), R27 IO_L17N_15 (io), R28 IO_L12P_VRN_15 (io), R29 IO_L12N_VRP_15 (io), R31 IO_L13N_15 (io), T25 IO_L19N_15 (io), T26 IO_L18N_15 (io), T28 IO_L15P_15 (io), T29 IO_L15N_15 (io), T30 IO_L14N_VREF_15 (io), T31 IO_L13P_15 (io), U25 IO_L19P_15 (io), U26 IO_L18P_15 (io), U27 IO_L16P_15 (io), U28 IO_L16N_15 (io), U30 IO_L14P_15 (io)
part L pins: E4 IO_L3P_16 (io), F4 IO_L3N_16 (io), F5 IO_L1N_16 (io), G5 IO_L1P_16 (io), H4 IO_L5P_16 (io), H5 IO_L2N_16 (io), J4 IO_L5N_16 (io), J5 IO_L2P_16 (io), J6 IO_L0P_16 (io), K4 IO_L7P_16 (io), K6 IO_L0N_16 (io), L4 IO_L7N_16 (io), L5 IO_L6N_16 (io), L6 IO_L4P_16 (io), M5 IO_L6P_16 (io), M6 IO_L4N_VREF_16 (io), N4 IO_L8P_CC_16 (io), N5 IO_L8N_CC_16 (io), P4 IO_L9P_CC_16 (io), P5 IO_L11P_CC_16 (io), P6 IO_L11N_CC_16 (io), R4 IO_L9N_CC_16 (io), R6 IO_L14P_16 (io), R7 IO_L14N_VREF_16 (io), R8 IO_L12N_VRP_16 (io), R9 IO_L12P_VRN_16 (io), R11 IO_L17P_16 (io), T4 IO_L10N_CC_16 (io), T5 IO_L13N_16 (io), T6 IO_L15N_16 (io), T8 IO_L16N_16 (io), T9 IO_L18N_16 (io), T10 IO_L17N_16 (io), T11 IO_L19N_16 (io), U5 IO_L10P_CC_16 (io), U6 IO_L13P_16 (io), U7 IO_L15P_16 (io), U8 IO_L16P_16 (io), U10 IO_L18P_16 (io), U11 IO_L19P_16 (io)
part M pins: AA29 IO_L11P_CC_17 (io), AA30 IO_L11N_CC_17 (io), AA31 IO_L9N_CC_17 (io), AB30 IO_L10N_CC_17 (io), AB31 IO_L9P_CC_17 (io), AC29 IO_L13N_17 (io), AC30 IO_L10P_CC_17 (io), AD29 IO_L15N_17 (io), AD30 IO_L13P_17 (io), AD31 IO_L12P_VRN_17 (io), AE29 IO_L15P_17 (io), AE31 IO_L12N_VRP_17 (io), AF29 IO_L17P_17 (io), AF30 IO_L17N_17 (io), AF31 IO_L14P_17 (io), AG30 IO_L19N_17 (io), AG31 IO_L14N_VREF_17 (io), AH29 IO_L19P_17 (io), AH30 IO_L18N_17 (io), AJ30 IO_L18P_17 (io), AJ31 IO_L16P_17 (io), AK31 IO_L16N_17 (io), V24 IO_L0N_17 (io), V25 IO_L2P_17 (io), V27 IO_L5N_17 (io), V28 IO_L5P_17 (io), V29 IO_L7N_17 (io), V30 IO_L4P_17 (io), W24 IO_L0P_17 (io), W25 IO_L2N_17 (io), W26 IO_L1N_17 (io), W27 IO_L3N_17 (io), W29 IO_L7P_17 (io), W30 IO_L4N_VREF_17 (io), W31 IO_L6P_17 (io), Y26 IO_L1P_17 (io), Y27 IO_L3P_17 (io), Y28 IO_L8P_CC_17 (io), Y29 IO_L8N_CC_17 (io), Y31 IO_L6N_17 (io)
part N pins: AA4 IO_L10P_CC_18 (io), AA5 IO_L8N_CC_18 (io), AA6 IO_L8P_CC_18 (io), AB5 IO_L10N_CC_18 (io), AB6 IO_L11P_CC_18 (io), AC4 IO_L12P_VRN_18 (io), AC5 IO_L11N_CC_18 (io), AD4 IO_L12N_VRP_18 (io), AD5 IO_L13P_18 (io), AD6 IO_L13N_18 (io), AE4 IO_L14P_18 (io), AE6 IO_L15N_18 (io), AF4 IO_L14N_VREF_18 (io), AF5 IO_L15P_18 (io), AF6 IO_L17P_18 (io), AG5 IO_L19P_18 (io), AG6 IO_L17N_18 (io), AH4 IO_L16P_18 (io), AH5 IO_L19N_18 (io), AJ4 IO_L16N_18 (io), AJ5 IO_L18N_18 (io), AK4 IO_L18P_18 (io), V5 IO_L5N_18 (io), V7 IO_L4N_VREF_18 (io), V8 IO_L3N_18 (io), V9 IO_L3P_18 (io), V10 IO_L2N_18 (io), W4 IO_L9N_CC_18 (io), W5 IO_L5P_18 (io), W6 IO_L7N_18 (io), W7 IO_L4P_18 (io), W9 IO_L1P_18 (io), W10 IO_L2P_18 (io), W11 IO_L0N_18 (io), Y4 IO_L9P_CC_18 (io), Y6 IO_L7P_18 (io), Y7 IO_L6P_18 (io), Y8 IO_L6N_18 (io), Y9 IO_L1N_18 (io), Y11 IO_L0P_18 (io)
part O pins: E26 IO_L11P_CC_19 (io), E27 IO_L11N_CC_19 (io), E28 IO_L10P_CC_19 (io), F25 IO_L7P_19 (io), F26 IO_L7N_19 (io), F28 IO_L10N_CC_19 (io), G25 IO_L5P_19 (io), G26 IO_L5N_19 (io), G27 IO_L8P_CC_19 (io), G28 IO_L9N_CC_19 (io), H24 IO_L6N_19 (io), H25 IO_L6P_19 (io), H27 IO_L8N_CC_19 (io), H28 IO_L9P_CC_19 (io), J24 IO_L2P_19 (io), J25 IO_L2N_19 (io), J26 IO_L4N_VREF_19 (io), J27 IO_L4P_19 (io), K24 IO_L0P_19 (io), K26 IO_L14N_VREF_19 (io), K27 IO_L14P_19 (io), K28 IO_L13P_19 (io), L24 IO_L0N_19 (io), L25 IO_L1P_19 (io), L26 IO_L1N_19 (io), L28 IO_L13N_19 (io), M25 IO_L3P_19 (io), M26 IO_L3N_19 (io), M27 IO_L12N_VRP_19 (io), M28 IO_L15P_19 (io), N24 IO_L17P_19 (io), N25 IO_L18N_19 (io), N27 IO_L12P_VRN_19 (io), N28 IO_L15N_19 (io), P24 IO_L17N_19 (io), P25 IO_L18P_19 (io), P26 IO_L16P_19 (io), P27 IO_L16N_19 (io), R24 IO_L19P_19 (io), T24 IO_L19N_19 (io)
part P pins: E6 IO_L10N_CC_20 (io), E7 IO_L5P_20 (io), E8 IO_L5N_20 (io), E9 IO_L3N_20 (io), F6 IO_L10P_CC_20 (io), F8 IO_L7N_20 (io), F9 IO_L7P_20 (io), F10 IO_L3P_20 (io), G6 IO_L14P_20 (io), G7 IO_L14N_VREF_20 (io), G8 IO_L9N_CC_20 (io), G10 IO_L1N_20 (io), H7 IO_L12P_VRN_20 (io), H8 IO_L12N_VRP_20 (io), H9 IO_L9P_CC_20 (io), H10 IO_L1P_20 (io), J7 IO_L13N_20 (io), J9 IO_L2N_20 (io), J10 IO_L2P_20 (io), J11 IO_L0N_20 (io), K7 IO_L13P_20 (io), K8 IO_L11N_CC_20 (io), K9 IO_L8P_CC_20 (io), K11 IO_L0P_20 (io), L8 IO_L11P_CC_20 (io), L9 IO_L8N_CC_20 (io), L10 IO_L4N_VREF_20 (io), L11 IO_L4P_20 (io), M7 IO_L15N_20 (io), M8 IO_L15P_20 (io), M10 IO_L6N_20 (io), M11 IO_L6P_20 (io), N7 IO_L16N_20 (io), N8 IO_L18N_20 (io), N9 IO_L17P_20 (io), N10 IO_L17N_20 (io), P7 IO_L16P_20 (io), P9 IO_L18P_20 (io), P10 IO_L19N_20 (io), P11 IO_L19P_20 (io)
part Q pins: AA24 IO_L2N_21 (io), AA25 IO_L0P_21 (io), AA26 IO_L0N_21 (io), AA28 IO_L5N_21 (io), AB25 IO_L3P_21 (io), AB26 IO_L3N_21 (io), AB27 IO_L1P_21 (io), AB28 IO_L5P_21 (io), AC24 IO_L17N_21 (io), AC25 IO_L17P_21 (io), AC27 IO_L1N_21 (io), AC28 IO_L4P_21 (io), AD24 IO_L19P_21 (io), AD25 IO_L18N_21 (io), AD26 IO_L18P_21 (io), AD27 IO_L4N_VREF_21 (io), AE24 IO_L19N_21 (io), AE26 IO_L16N_21 (io), AE27 IO_L16P_21 (io), AE28 IO_L7P_21 (io), AF24 IO_L13P_21 (io), AF25 IO_L15P_21 (io), AF26 IO_L15N_21 (io), AF28 IO_L7N_21 (io), AG25 IO_L13N_21 (io), AG26 IO_L14N_VREF_21 (io), AG27 IO_L14P_21 (io), AG28 IO_L6P_21 (io), AH25 IO_L12N_VRP_21 (io), AH27 IO_L11P_CC_21 (io), AH28 IO_L6N_21 (io), AJ25 IO_L12P_VRN_21 (io), AJ26 IO_L11N_CC_21 (io), AJ27 IO_L8N_CC_21 (io), AJ29 IO_L9N_CC_21 (io), AK26 IO_L8P_CC_21 (io), AK27 IO_L10N_CC_21 (io), AK28 IO_L10P_CC_21 (io), AK29 IO_L9P_CC_21 (io), Y24 IO_L2P_21 (io)
part R pins: AA8 IO_L1P_22 (io), AA9 IO_L1N_22 (io), AA10 IO_L0P_22 (io), AA11 IO_L0N_22 (io), AB7 IO_L3N_22 (io), AB8 IO_L3P_22 (io), AB10 IO_L2N_22 (io), AB11 IO_L2P_22 (io), AC7 IO_L4N_VREF_22 (io), AC8 IO_L4P_22 (io), AC9 IO_L8N_CC_22 (io), AC10 IO_L11P_CC_22 (io), AD7 IO_L6N_22 (io), AD9 IO_L8P_CC_22 (io), AD10 IO_L11N_CC_22 (io), AD11 IO_L19P_22 (io), AE7 IO_L6P_22 (io), AE8 IO_L10P_CC_22 (io), AE9 IO_L13P_22 (io), AE11 IO_L19N_22 (io), AF8 IO_L10N_CC_22 (io), AF9 IO_L13N_22 (io), AF10 IO_L15P_22 (io), AF11 IO_L17N_22 (io), AG7 IO_L7P_22 (io), AG8 IO_L9P_CC_22 (io), AG10 IO_L15N_22 (io), AG11 IO_L17P_22 (io), AH7 IO_L7N_22 (io), AH8 IO_L9N_CC_22 (io), AH9 IO_L14P_22 (io), AH10 IO_L18N_22 (io), AJ6 IO_L5N_22 (io), AJ7 IO_L5P_22 (io), AJ9 IO_L14N_VREF_22 (io), AJ10 IO_L18P_22 (io), AK6 IO_L12P_VRN_22 (io), AK7 IO_L12N_VRP_22 (io), AK8 IO_L16N_22 (io), AK9 IO_L16P_22 (io)
part S pins: A18 IO_L4N_VREF_23 (io), A19 IO_L6P_23 (io), A20 IO_L6N_23 (io), A21 IO_L1N_23 (io), A23 IO_L7P_23 (io), A24 IO_L7N_23 (io), A25 IO_L9N_CC_23 (io), A26 IO_L10N_CC_23 (io), A28 IO_L14N_VREF_23 (io), A29 IO_L14P_23 (io), A30 IO_L19P_23 (io), A31 IO_L16N_23 (io), B18 IO_L4P_23 (io), B20 IO_L0N_23 (io), B21 IO_L1P_23 (io), B22 IO_L3N_23 (io), B23 IO_L5N_23 (io), B25 IO_L11P_CC_23 (io), B26 IO_L9P_CC_23 (io), B27 IO_L10P_CC_23 (io), B28 IO_L12N_VRP_23 (io), B30 IO_L19N_23 (io), B31 IO_L16P_23 (io), C18 IO_L2N_23 (io), C19 IO_L2P_23 (io), C20 IO_L0P_23 (io), C22 IO_L3P_23 (io), C23 IO_L5P_23 (io), C24 IO_L8P_CC_23 (io), C25 IO_L11N_CC_23 (io), C27 IO_L13N_23 (io), C28 IO_L15P_23 (io), C29 IO_L12P_VRN_23 (io), C30 IO_L17P_23 (io), D25 IO_L8N_CC_23 (io), D26 IO_L13P_23 (io), D27 IO_L15N_23 (io), D29 IO_L17N_23 (io), D30 IO_L18N_23 (io), D31 IO_L18P_23 (io)
part T pins: A4 IO_L14N_VREF_24 (io), A5 IO_L12P_VRN_24 (io), A6 IO_L12N_VRP_24 (io), A8 IO_L10N_CC_24 (io), A9 IO_L9N_CC_24 (io), A10 IO_L9P_CC_24 (io), A11 IO_L7P_24 (io), A13 IO_L3N_24 (io), A14 IO_L0N_24 (io), A15 IO_L0P_24 (io), A16 IO_L4N_VREF_24 (io), B5 IO_L14P_24 (io), B6 IO_L13P_24 (io), B7 IO_L13N_24 (io), B8 IO_L10P_CC_24 (io), B10 IO_L11P_CC_24 (io), B11 IO_L7N_24 (io), B12 IO_L5P_24 (io), B13 IO_L3P_24 (io), B15 IO_L2P_24 (io), B16 IO_L4P_24 (io), B17 IO_L6P_24 (io), C4 IO_L16P_24 (io), C5 IO_L16N_24 (io), C7 IO_L15N_24 (io), C8 IO_L15P_24 (io), C9 IO_L17N_24 (io), C10 IO_L11N_CC_24 (io), C12 IO_L5N_24 (io), C13 IO_L1N_24 (io), C14 IO_L1P_24 (io), C15 IO_L2N_24 (io), C17 IO_L6N_24 (io), D4 IO_L18N_24 (io), D5 IO_L18P_24 (io), D6 IO_L19P_24 (io), D7 IO_L19N_24 (io), D9 IO_L17P_24 (io), D10 IO_L8N_CC_24 (io), D11 IO_L8P_CC_24 (io)
part U pins: AL24 IO_L11N_CC_25 (io), AL25 IO_L11P_CC_25 (io), AL26 IO_L9N_CC_25 (io), AL28 IO_L4N_VREF_25 (io), AL29 IO_L0P_25 (io), AL30 IO_L0N_25 (io), AL31 IO_L1N_25 (io), AM18 IO_L17N_25 (io), AM20 IO_L13N_25 (io), AM21 IO_L13P_25 (io), AM22 IO_L16N_25 (io), AM23 IO_L14N_VREF_25 (io), AM25 IO_L8N_CC_25 (io), AM26 IO_L9P_CC_25 (io), AM27 IO_L4P_25 (io), AM28 IO_L7N_25 (io), AM30 IO_L2N_25 (io), AM31 IO_L1P_25 (io), AN18 IO_L17P_25 (io), AN19 IO_L19P_25 (io), AN20 IO_L15P_25 (io), AN22 IO_L16P_25 (io), AN23 IO_L14P_25 (io), AN24 IO_L12P_VRN_25 (io), AN25 IO_L8P_CC_25 (io), AN27 IO_L6N_25 (io), AN28 IO_L7P_25 (io), AN29 IO_L5N_25 (io), AN30 IO_L2P_25 (io), AP19 IO_L19N_25 (io), AP20 IO_L15N_25 (io), AP21 IO_L18N_25 (io), AP22 IO_L18P_25 (io), AP24 IO_L12N_VRP_25 (io), AP25 IO_L10N_CC_25 (io), AP26 IO_L10P_CC_25 (io), AP27 IO_L6P_25 (io), AP29 IO_L5P_25 (io), AP30 IO_L3P_25 (io), AP31 IO_L3N_25 (io)
part V pins: AL4 IO_L2N_26 (io), AL5 IO_L0P_26 (io), AL6 IO_L0N_26 (io), AL8 IO_L4P_26 (io), AL9 IO_L4N_VREF_26 (io), AL10 IO_L8N_CC_26 (io), AM5 IO_L2P_26 (io), AM6 IO_L5N_26 (io), AM7 IO_L6N_26 (io), AM8 IO_L6P_26 (io), AM10 IO_L8P_CC_26 (io), AM11 IO_L11N_CC_26 (io), AM12 IO_L12P_VRN_26 (io), AM13 IO_L14N_VREF_26 (io), AM15 IO_L17P_26 (io), AM16 IO_L17N_26 (io), AM17 IO_L13N_26 (io), AN4 IO_L1N_26 (io), AN5 IO_L1P_26 (io), AN7 IO_L5P_26 (io), AN8 IO_L7N_26 (io), AN9 IO_L7P_26 (io), AN10 IO_L11P_CC_26 (io), AN12 IO_L12N_VRP_26 (io), AN13 IO_L14P_26 (io), AN14 IO_L18N_26 (io), AN15 IO_L19N_26 (io), AN17 IO_L13P_26 (io), AP4 IO_L3N_26 (io), AP5 IO_L3P_26 (io), AP6 IO_L9N_CC_26 (io), AP7 IO_L9P_CC_26 (io), AP9 IO_L10P_CC_26 (io), AP10 IO_L10N_CC_26 (io), AP11 IO_L16P_26 (io), AP12 IO_L16N_26 (io), AP14 IO_L18P_26 (io), AP15 IO_L19P_26 (io), AP16 IO_L15P_26 (io), AP17 IO_L15N_26 (io)
part W pins: AA13 TCK_0 (in), AB13 TMS_0 (in), AC13 TDI_0 (in), AC14 TDO_0 (out), AC22 M1_0 (in), AD14 D_OUT_BUSY_0 (out), AD21 M0_0 (in), AD22 M2_0 (in), L13 INIT_B_0 (io), M13 CCLK_0 (io), M22 PROGRAM_B_0 (in), M23 CS_B_0 (in), N13 D_IN_0 (in), N14 DONE_0 (io), N22 HSWAPEN_0 (in), N23 RDWR_B_0 (in), P22 VBATT_0 (power), W17 DXN_0, W18 DXP_0
part X pins: AA12 VCCAUX (power), AA14 VCCINT (power), AA16 VCCINT (power), AA18 VCCINT (power), AA20 VCCINT (power), AA22 VCCINT (power), AA32 VCCO_13 (power), AB9 VCCO_14 (power), AB15 VCCINT (power), AB17 VCCINT (power), AB19 VCCINT (power), AB21 VCCINT (power), AB29 VCCO_13 (power), AC6 VCCO_14 (power), AC12 VCCAUX (power), AC16 VCCINT (power), AC18 VCCINT (power), AD3 VCCO_18 (power), AD13 VCCO_0 (power), AD17 VCCINT (power), AD23 VCCAUX (power), AD33 VCCO_17 (power), AE30 VCCO_17 (power), AF7 VCCO_18 (power), AF17 VCCO_4 (power), AF27 VCCO_25 (power), AG4 VCCO_18 (power), AG14 VCCO_0 (power), AG24 VCCO_25 (power), AH11 VCCO_26 (power), AH21 VCCO_2 (power), AH31 VCCO_17 (power), AJ8 VCCO_22 (power), AJ18 VCCO_6 (power), AJ28 VCCO_21 (power), AK5 VCCO_22 (power), AK15 VCCO_4 (power), AK25 VCCO_25 (power), AL12 VCCO_26 (power), AL22 VCCO_2 (power), AL32 VCCO_21 (power), AM9 VCCO_26 (power), AM19 VCCO_6 (power), AM29 VCCO_21 (power), AN6 VCCO_22 (power), AN16 VCCO_6 (power), B9 VCCO_24 (power), B19 VCCO_5 (power), B29 VCCO_19 (power), C6 VCCO_24 (power), C16 VCCO_5 (power), C26 VCCO_23 (power), D13 VCCO_1 (power), D23 VCCO_23 (power), E10 VCCO_24 (power), E20 VCCO_3 (power), E30 VCCO_19 (power), F7 VCCO_20 (power), F17 VCCO_5 (power), F27 VCCO_19 (power), G4 VCCO_20 (power), G14 VCCO_1 (power), G24 VCCO_23 (power), H21 VCCO_3 (power), H31 VCCO_15 (power), J8 VCCO_20 (power), K5 VCCO_16 (power), L12 VCCAUX (power), L18 VCCINT (power), L32 VCCO_15 (power), M15 VCCINT (power), M17 VCCINT (power), M19 VCCINT (power), M21 VCCINT (power), M29 VCCO_15 (power), N6 VCCO_16 (power), N12 VCCAUX (power), N16 VCCINT (power), N18 VCCINT (power), N20 VCCINT (power), P3 VCCO_16 (power), P13 VCCINT (power), P15 VCCINT (power), P17 VCCINT (power), P19 VCCINT (power), P21 VCCINT (power), P23 VCCAUX (power), P33 VCCO_11 (power), R12 VCCAUX (power), R14 VCCINT (power), R16 VCCINT (power), R18 VCCINT (power), R20 VCCINT (power), R22 VCCINT (power), R30 VCCO_11 (power), T7 VCCO_12 (power), T13 VCCINT (power), T15 VCCINT (power), T17 AVSS_0 (power), T18 AVDD_0 (power), T19 VCCINT (power), T21 VCCINT (power), T23 VCCAUX (power), U4 VCCO_12 (power), U12 VCCINT (power), U14 VCCINT (power), U16 VCCINT (power), U17 VREFN_0 (power), U18 VP_0 (power), U20 VCCINT (power), U22 VCCINT (power), U24 VCCAUX (power), V11 VCCAUX (power), V13 VCCINT (power), V15 VCCINT (power), V17 VN_0 (power), V18 VREFP_0 (power), V19 VCCINT (power), V21 VCCINT (power), V23 VCCAUX (power), V31 VCCO_11 (power), W8 VCCO_12 (power), W12 VCCINT (power), W14 VCCINT (power), W16 VCCINT (power), W20 VCCINT (power), W22 VCCINT (power), W28 VCCO_13 (power), Y5 VCCO_14 (power), Y13 VCCINT (power), Y15 VCCINT (power), Y17 VCCINT (power), Y19 VCCINT (power), Y21 VCCINT (power), Y23 VCCAUX (power)
part Y pins: A1 GND (power), A2 GND (power), A7 GND (power), A12 GND (power), A17 GND (power), A22 GND (power), A27 GND (power), A32 GND (power), AA2 GND (power), AA7 GND (power), AA15 GND (power), AA17 GND (power), AA19 GND (power), AA21 GND (power), AA23 GND (power), AA27 GND (power), AB4 GND (power), AB12 GND (power), AB14 GND (power), AB16 GND (power), AB18 GND (power), AB20 GND (power), AB22 GND (power), AB23 RSVD, AB24 GND (power), AB34 GND (power), AC1 GND (power), AC11 GND (power), AC17 GND (power), AC21 GND (power), AC23 RSVD, AC26 GND (power), AC31 GND (power), AD8 GND (power), AD12 GND (power), AD18 GND (power), AD28 GND (power), AE5 GND (power), AE10 GND (power), AE15 GND (power), AE20 GND (power), AE25 GND (power), AF2 GND (power), AF12 GND (power), AF22 GND (power), AF32 GND (power), AG9 GND (power), AG19 GND (power), AG29 GND (power), AG34 GND (power), AH1 GND (power), AH6 GND (power), AH16 GND (power), AH26 GND (power), AJ3 GND (power), AJ13 GND (power), AJ23 GND (power), AJ33 GND (power), AK10 GND (power), AK20 GND (power), AK30 GND (power), AL2 GND (power), AL7 GND (power), AL17 GND (power), AL27 GND (power), AM4 GND (power), AM14 GND (power), AM24 GND (power), AM34 GND (power), AN1 GND (power), AN11 GND (power), AN21 GND (power), AN26 GND (power), AN31 GND (power), AP3 GND (power), AP8 GND (power), AP13 GND (power), AP18 GND (power), AP23 GND (power), AP28 GND (power), AP33 GND (power), B4 GND (power), B14 GND (power), B24 GND (power), B34 GND (power), C1 GND (power), C11 GND (power), C21 GND (power), C31 GND (power), D3 GND (power), D8 GND (power), D18 GND (power), D28 GND (power), D33 GND (power), E5 GND (power), E15 GND (power), E25 GND (power), F2 GND (power), F12 GND (power), F22 GND (power), F32 GND (power), G9 GND (power), G19 GND (power), G29 GND (power), G34 GND (power), H1 GND (power), H6 GND (power), H11 GND (power), H16 GND (power), H26 GND (power), J3 GND (power), J13 GND (power), J18 GND (power), J23 GND (power), J28 GND (power), J33 GND (power), K10 GND (power), K15 GND (power), K20 GND (power), K25 GND (power), K30 GND (power), L2 GND (power), L7 GND (power), L17 GND (power), L22 GND (power), L27 GND (power), M4 GND (power), M9 GND (power), M12 GND (power), M14 GND (power), M16 GND (power), M18 GND (power), M20 GND (power), M24 GND (power), M34 GND (power), N1 GND (power), N11 GND (power), N15 GND (power), N17 GND (power), N19 GND (power), N21 GND (power), N26 GND (power), N31 GND (power), P8 GND (power), P12 GND (power), P14 GND (power), P16 GND (power), P18 GND (power), P20 GND (power), P28 GND (power), R5 GND (power), R10 GND (power), R13 GND (power), R15 GND (power), R17 GND (power), R19 GND (power), R21 GND (power), R23 GND (power), R25 GND (power), T2 GND (power), T12 GND (power), T14 GND (power), T16 GND (power), T20 GND (power), T22 GND (power), T27 GND (power), T32 GND (power), U9 GND (power), U13 GND (power), U15 GND (power), U19 GND (power), U21 GND (power), U23 GND (power), U29 GND (power), U34 GND (power), V1 GND (power), V6 GND (power), V12 GND (power), V14 GND (power), V16 GND (power), V20 GND (power), V22 GND (power), V26 GND (power), W3 GND (power), W13 GND (power), W15 GND (power), W19 GND (power), W21 GND (power), W23 GND (power), W33 GND (power), Y10 GND (power), Y12 GND (power), Y14 GND (power), Y16 GND (power), Y18 GND (power), Y20 GND (power), Y22 GND (power), Y25 GND (power), Y30 GND (power)
part A text: BANK 1
part B text: BANK 2
part C text: BANK 3
part D text: BANK 4
part E text: BANK 5
part F text: BANK 6
part G text: BANK 11
part H text: BANK 12
part I text: BANK 13
part J text: BANK 14
part K text: BANK 15
part L text: BANK 16
part M text: BANK 17
part N text: BANK 18
part O text: BANK 19
part P text: BANK 20
part Q text: BANK 21
part R text: BANK 22
part S text: BANK 23
part T text: BANK 24
part U text: BANK 25
part V text: BANK 26

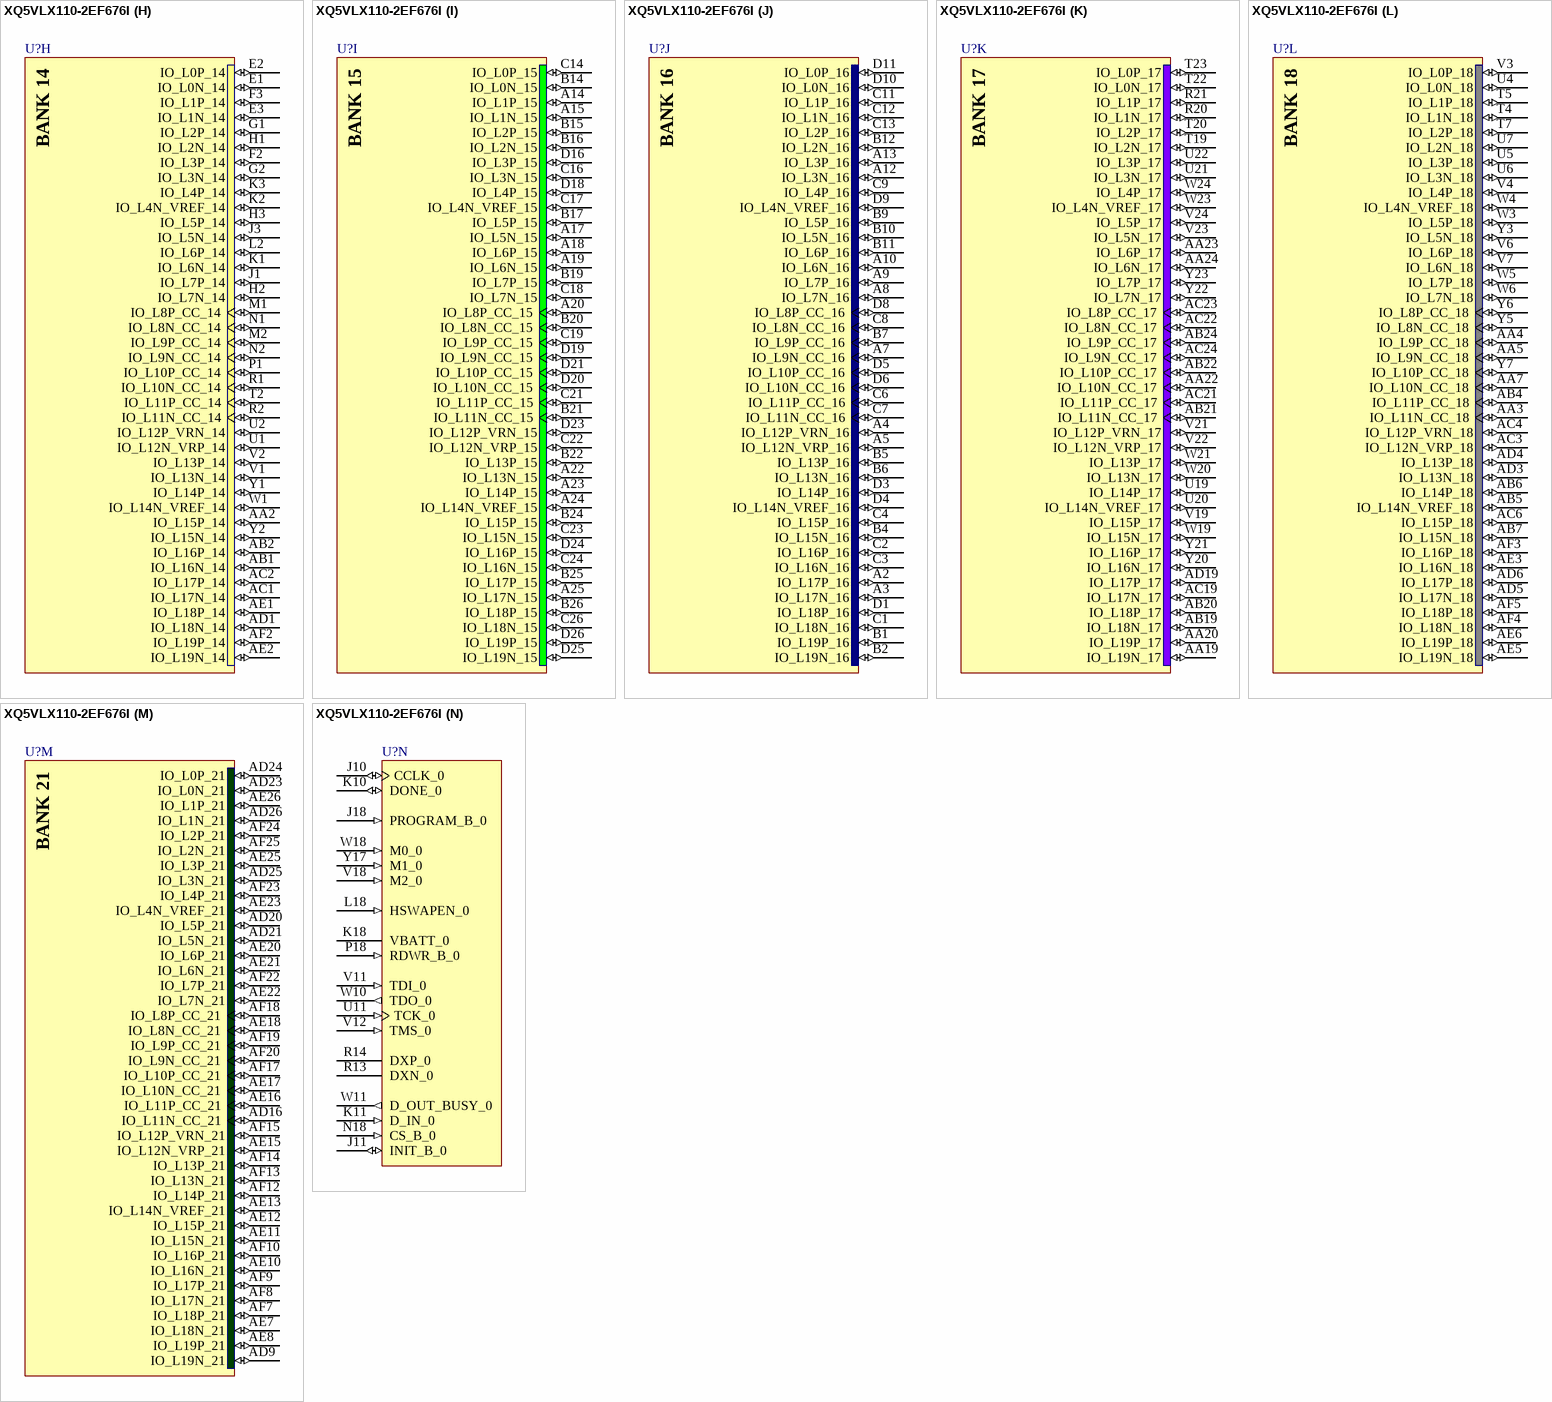
[diagram p109: symbol XQ5VLX110-2EF676I]

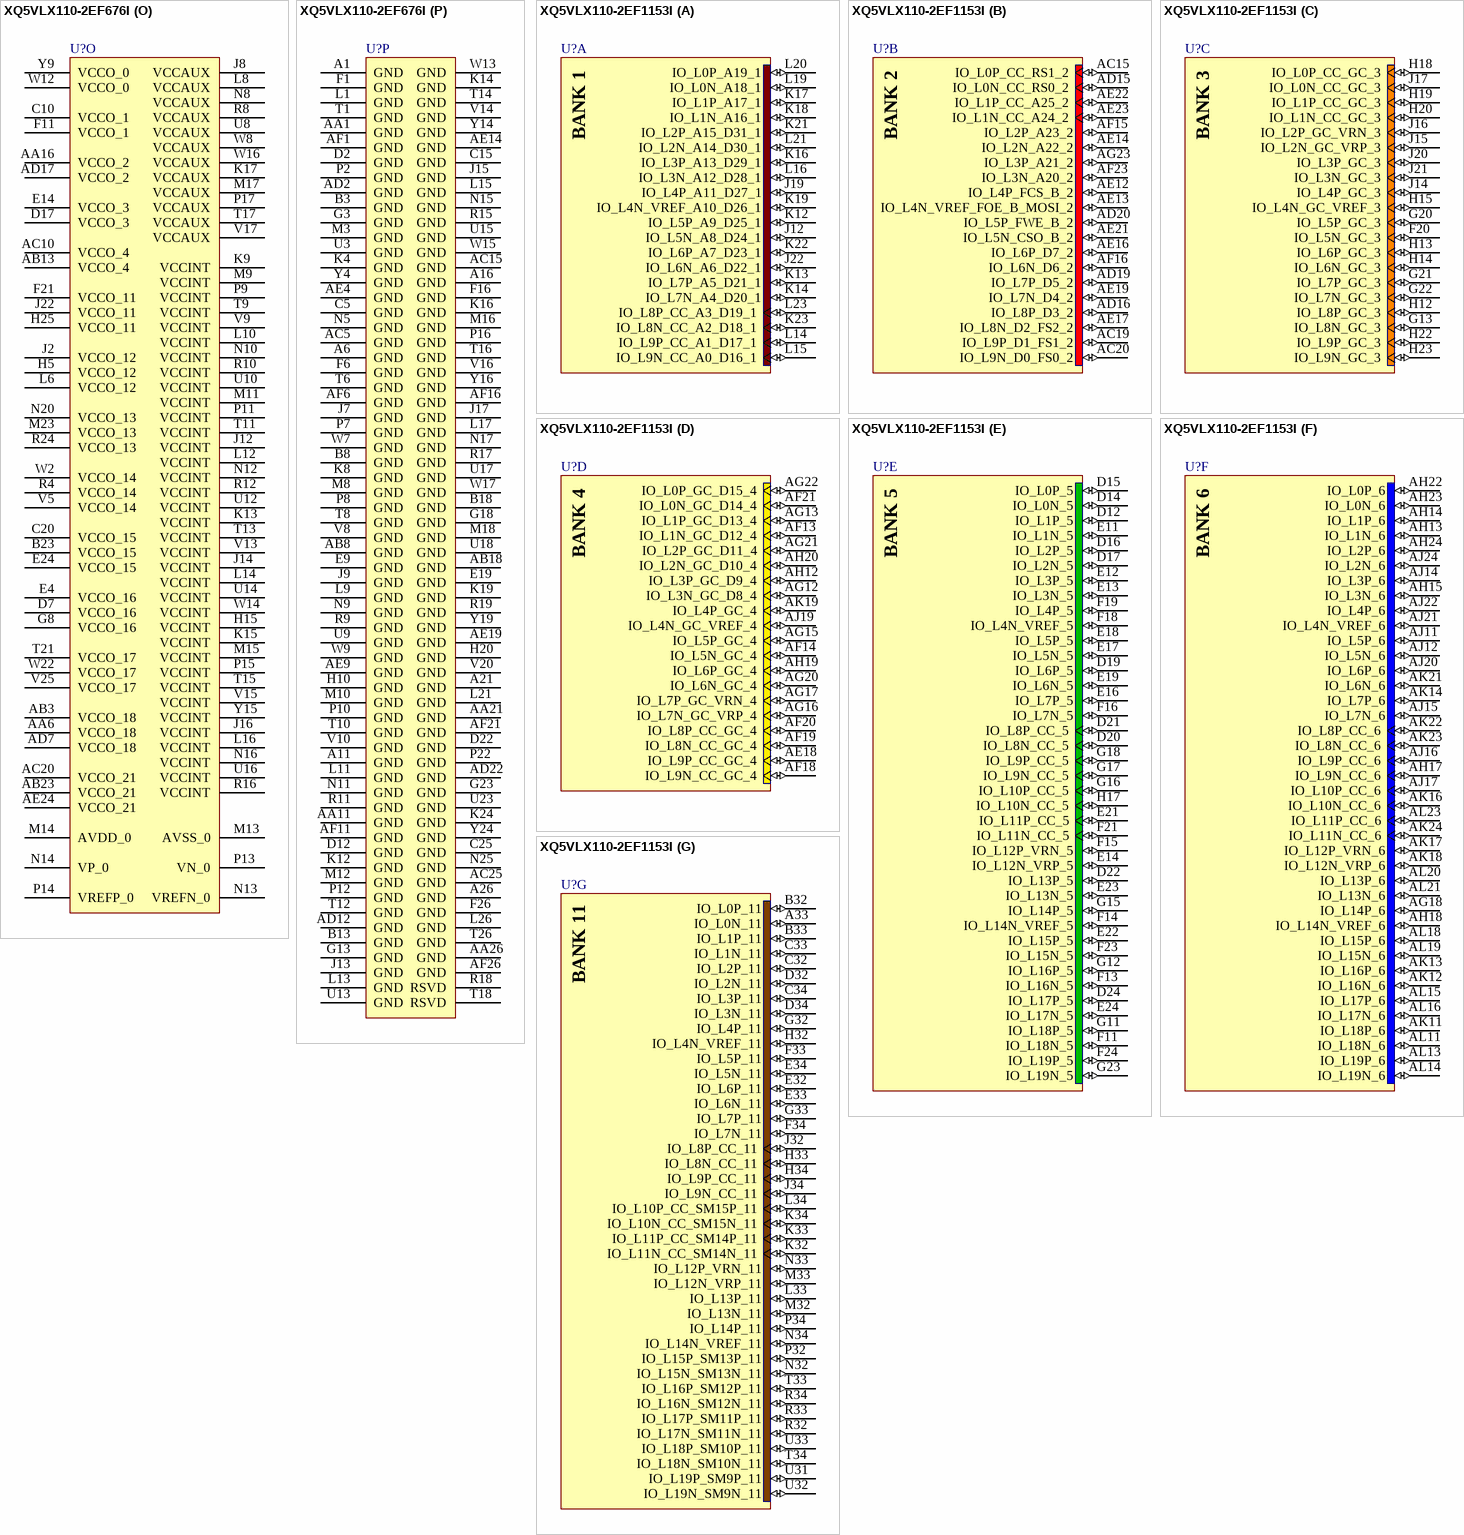
[diagram p110: symbols XQ5VLX110-2EF676I to XQ5VLX110-2EF1153I]